# Altium schematic symbol library MCU_Texas_MSP430.SchLib: 361 symbols (part 4 of 7)
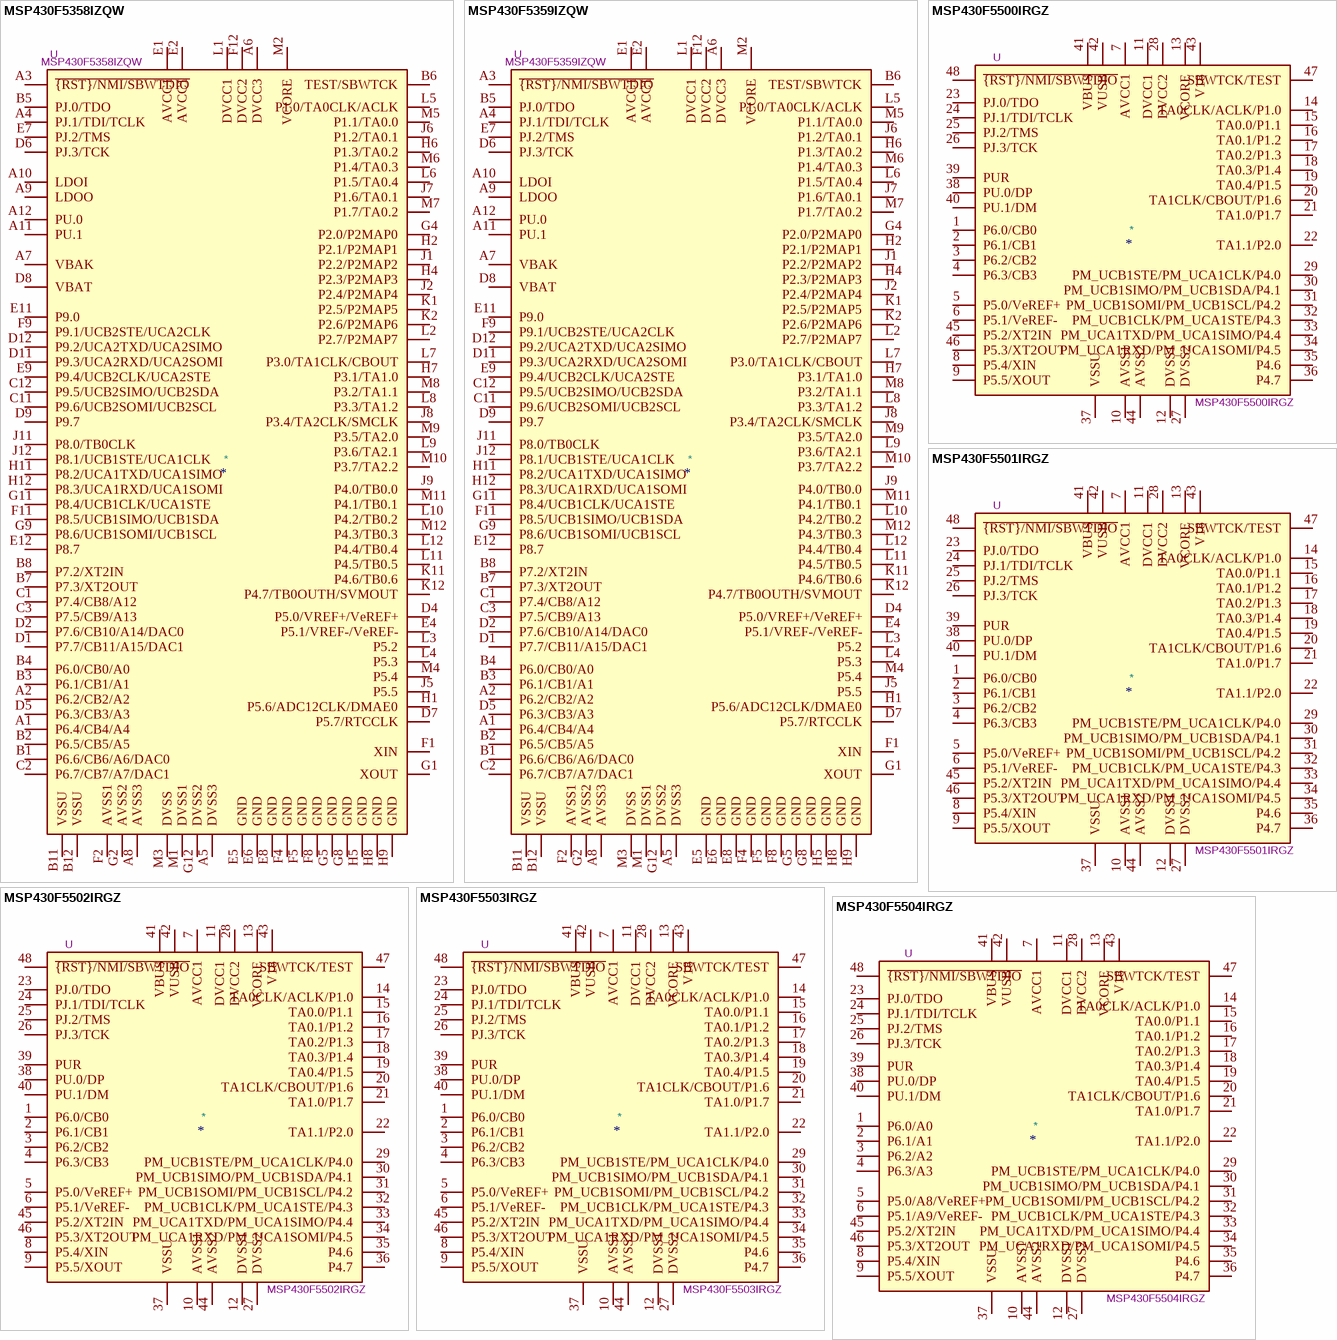
[diagram p37: symbols MSP430F5358IZQW to MSP430F5504IRGZ]

## MSP430F5359IZQW
designator *  value MSP430F5359IZQW  Reference: U
ki_keywords: TI MSP430 16-bit mixed signal microcontroller; ki_description: 512kB Flash, 66kB RAM, BGA-113; ki_fp_filters: Texas*MicroStar*Junior*BGA*7.0x7.0mm*Layout12x12*P0.5mm*; Footprint: Package_BGA:Texas_MicroStar_Junior_BGA-113_7.0x7.0mm_Layout12x12_P0.5mm; Datasheet: http://www.ti.com/lit/ds/symlink/msp430f5359.pdf
pins: A1 P6.4/CB4/A4, A2 P6.2/CB2/A2, A3 ~{{RST}/NMI/SBWTDIO}, A4 PJ.1/TDI/TCLK, A5 DVSS3, A6 DVCC3, A7 VBAK, A8 AVSS3, A9 LDOO, A10 LDOI, A11 PU.1, A12 PU.0, B1 P6.6/CB6/A6/DAC0, B2 P6.5/CB5/A5, B3 P6.1/CB1/A1, B4 P6.0/CB0/A0, B5 PJ.0/TDO, B6 TEST/SBWTCK, B7 P7.3/XT2OUT, B8 P7.2/XT2IN, B11 VSSU, B12 VSSU, C1 P7.4/CB8/A12, C2 P6.7/CB7/A7/DAC1, C3 P7.5/CB9/A13, C11 P9.6/UCB2SOMI/UCB2SCL, C12 P9.5/UCB2SIMO/UCB2SDA, D1 P7.7/CB11/A15/DAC1, D2 P7.6/CB10/A14/DAC0, D4 P5.0/VREF+/VeREF+, D5 P6.3/CB3/A3, D6 PJ.3/TCK, D7 P5.7/RTCCLK, D8 VBAT, D9 P9.7, D11 P9.3/UCA2RXD/UCA2SOMI, D12 P9.2/UCA2TXD/UCA2SIMO, E1 AVCC1, E2 AVCC1, E4 P5.1/VREF-/VeREF-, E5 GND, E6 GND, E7 PJ.2/TMS, E8 GND, E9 P9.4/UCB2CLK/UCA2STE, E11 P9.0, E12 P8.7, F1 XIN, F2 AVSS1, F4 GND, F5 GND, F8 GND, F9 P9.1/UCB2STE/UCA2CLK, F11 P8.5/UCB1SIMO/UCB1SDA, F12 DVCC2, G1 XOUT, G2 AVSS2, G4 P2.0/P2MAP0, G5 GND, G8 GND, G9 P8.6/UCB1SOMI/UCB1SCL, G11 P8.4/UCB1CLK/UCA1STE, G12 DVSS2, H1 P5.6/ADC12CLK/DMAE0, H2 P2.1/P2MAP1, H4 P2.3/P2MAP3, H5 GND, H6 P1.3/TA0.2, H7 P3.1/TA1.0, H8 GND, H9 GND, H11 P8.2/UCA1TXD/UCA1SIMO, H12 P8.3/UCA1RXD/UCA1SOMI, J1 P2.2/P2MAP2, J2 P2.4/P2MAP4, J5 P5.5, J6 P1.2/TA0.1, J7 P1.6/TA0.1, J8 P3.4/TA2CLK/SMCLK, J9 P4.0/TB0.0, J11 P8.0/TB0CLK, J12 P8.1/UCB1STE/UCA1CLK, K1 P2.5/P2MAP5, K2 P2.6/P2MAP6, K11 P4.6/TB0.6, K12 P4.7/TB0OUTH/SVMOUT, L1 DVCC1, L2 P2.7/P2MAP7, L3 P5.2, L4 P5.3, L5 P1.0/TA0CLK/ACLK, L6 P1.5/TA0.4, L7 P3.0/TA1CLK/CBOUT, L8 P3.3/TA1.2, L9 P3.6/TA2.1, L10 P4.2/TB0.2, L11 P4.5/TB0.5, L12 P4.4/TB0.4, M1 DVSS1, M2 VCORE, M3 DVSS, M4 P5.4, M5 P1.1/TA0.0, M6 P1.4/TA0.3, M7 P1.7/TA0.2, M8 P3.2/TA1.1, M9 P3.5/TA2.0, M10 P3.7/TA2.2, M11 P4.1/TB0.1, M12 P4.3/TB0.3

## MSP430F5500IRGZ
designator *  value MSP430F5500IRGZ  Reference: U
ki_keywords: TI MSP430 16-bit mixed signal microcontroller; ki_description: 8kB Flash, 4kB + 2kB RAM, QFN-48; ki_fp_filters: Texas*S?PVQFN*; Footprint: Package_DFN_QFN:Texas_S-PVQFN-N48_EP5.15x5.15mm; Datasheet: http://www.ti.com/lit/ds/symlink/msp430f5500.pdf
pins: 1 P6.0/CB0, 2 P6.1/CB1, 3 P6.2/CB2, 4 P6.3/CB3, 5 P5.0/VeREF+, 6 P5.1/VeREF-, 7 AVCC1, 8 P5.4/XIN, 9 P5.5/XOUT, 10 AVSS1, 11 DVCC1, 12 DVSS1, 13 VCORE, 14 TA0CLK/ACLK/P1.0, 15 TA0.0/P1.1, 16 TA0.1/P1.2, 17 TA0.2/P1.3, 18 TA0.3/P1.4, 19 TA0.4/P1.5, 20 TA1CLK/CBOUT/P1.6, 21 TA1.0/P1.7, 22 TA1.1/P2.0, 23 PJ.0/TDO, 24 PJ.1/TDI/TCLK, 25 PJ.2/TMS, 26 PJ.3/TCK, 27 DVSS2, 28 DVCC2, 29 PM_UCB1STE/PM_UCA1CLK/P4.0, 30 PM_UCB1SIMO/PM_UCB1SDA/P4.1, 31 PM_UCB1SOMI/PM_UCB1SCL/P4.2, 32 PM_UCB1CLK/PM_UCA1STE/P4.3, 33 PM_UCA1TXD/PM_UCA1SIMO/P4.4, 34 PM_UCA1RXD/PM_UCA1SOMI/P4.5, 35 P4.6, 36 P4.7, 37 VSSU, 38 PU.0/DP, 39 PUR, 40 PU.1/DM, 41 VBUS, 42 VUSB, 43 V18, 44 AVSS2, 45 P5.2/XT2IN, 46 P5.3/XT2OUT, 47 SBWTCK/TEST, 48 ~{{RST}/NMI/SBWTDIO}

## MSP430F5501IRGZ
designator *  value MSP430F5501IRGZ  Reference: U
ki_keywords: TI MSP430 16-bit mixed signal microcontroller; ki_description: 16kB Flash, 4kB + 2kB RAM, QFN-48; ki_fp_filters: Texas*S?PVQFN*; Footprint: Package_DFN_QFN:Texas_S-PVQFN-N48_EP5.15x5.15mm; Datasheet: http://www.ti.com/lit/ds/symlink/msp430f5501.pdf
pins: 1 P6.0/CB0, 2 P6.1/CB1, 3 P6.2/CB2, 4 P6.3/CB3, 5 P5.0/VeREF+, 6 P5.1/VeREF-, 7 AVCC1, 8 P5.4/XIN, 9 P5.5/XOUT, 10 AVSS1, 11 DVCC1, 12 DVSS1, 13 VCORE, 14 TA0CLK/ACLK/P1.0, 15 TA0.0/P1.1, 16 TA0.1/P1.2, 17 TA0.2/P1.3, 18 TA0.3/P1.4, 19 TA0.4/P1.5, 20 TA1CLK/CBOUT/P1.6, 21 TA1.0/P1.7, 22 TA1.1/P2.0, 23 PJ.0/TDO, 24 PJ.1/TDI/TCLK, 25 PJ.2/TMS, 26 PJ.3/TCK, 27 DVSS2, 28 DVCC2, 29 PM_UCB1STE/PM_UCA1CLK/P4.0, 30 PM_UCB1SIMO/PM_UCB1SDA/P4.1, 31 PM_UCB1SOMI/PM_UCB1SCL/P4.2, 32 PM_UCB1CLK/PM_UCA1STE/P4.3, 33 PM_UCA1TXD/PM_UCA1SIMO/P4.4, 34 PM_UCA1RXD/PM_UCA1SOMI/P4.5, 35 P4.6, 36 P4.7, 37 VSSU, 38 PU.0/DP, 39 PUR, 40 PU.1/DM, 41 VBUS, 42 VUSB, 43 V18, 44 AVSS2, 45 P5.2/XT2IN, 46 P5.3/XT2OUT, 47 SBWTCK/TEST, 48 ~{{RST}/NMI/SBWTDIO}

## MSP430F5502IRGZ
designator *  value MSP430F5502IRGZ  Reference: U
ki_keywords: TI MSP430 16-bit mixed signal microcontroller; ki_description: 24kB Flash, 4kB + 2kB RAM, QFN-48; ki_fp_filters: Texas*S?PVQFN*; Footprint: Package_DFN_QFN:Texas_S-PVQFN-N48_EP5.15x5.15mm; Datasheet: http://www.ti.com/lit/ds/symlink/msp430f5502.pdf
pins: 1 P6.0/CB0, 2 P6.1/CB1, 3 P6.2/CB2, 4 P6.3/CB3, 5 P5.0/VeREF+, 6 P5.1/VeREF-, 7 AVCC1, 8 P5.4/XIN, 9 P5.5/XOUT, 10 AVSS1, 11 DVCC1, 12 DVSS1, 13 VCORE, 14 TA0CLK/ACLK/P1.0, 15 TA0.0/P1.1, 16 TA0.1/P1.2, 17 TA0.2/P1.3, 18 TA0.3/P1.4, 19 TA0.4/P1.5, 20 TA1CLK/CBOUT/P1.6, 21 TA1.0/P1.7, 22 TA1.1/P2.0, 23 PJ.0/TDO, 24 PJ.1/TDI/TCLK, 25 PJ.2/TMS, 26 PJ.3/TCK, 27 DVSS2, 28 DVCC2, 29 PM_UCB1STE/PM_UCA1CLK/P4.0, 30 PM_UCB1SIMO/PM_UCB1SDA/P4.1, 31 PM_UCB1SOMI/PM_UCB1SCL/P4.2, 32 PM_UCB1CLK/PM_UCA1STE/P4.3, 33 PM_UCA1TXD/PM_UCA1SIMO/P4.4, 34 PM_UCA1RXD/PM_UCA1SOMI/P4.5, 35 P4.6, 36 P4.7, 37 VSSU, 38 PU.0/DP, 39 PUR, 40 PU.1/DM, 41 VBUS, 42 VUSB, 43 V18, 44 AVSS2, 45 P5.2/XT2IN, 46 P5.3/XT2OUT, 47 SBWTCK/TEST, 48 ~{{RST}/NMI/SBWTDIO}

## MSP430F5503IRGZ
designator *  value MSP430F5503IRGZ  Reference: U
ki_keywords: TI MSP430 16-bit mixed signal microcontroller; ki_description: 32kB Flash, 4kB + 2kB RAM, QFN-48; ki_fp_filters: Texas*S?PVQFN*; Footprint: Package_DFN_QFN:Texas_S-PVQFN-N48_EP5.15x5.15mm; Datasheet: http://www.ti.com/lit/ds/symlink/msp430f5503.pdf
pins: 1 P6.0/CB0, 2 P6.1/CB1, 3 P6.2/CB2, 4 P6.3/CB3, 5 P5.0/VeREF+, 6 P5.1/VeREF-, 7 AVCC1, 8 P5.4/XIN, 9 P5.5/XOUT, 10 AVSS1, 11 DVCC1, 12 DVSS1, 13 VCORE, 14 TA0CLK/ACLK/P1.0, 15 TA0.0/P1.1, 16 TA0.1/P1.2, 17 TA0.2/P1.3, 18 TA0.3/P1.4, 19 TA0.4/P1.5, 20 TA1CLK/CBOUT/P1.6, 21 TA1.0/P1.7, 22 TA1.1/P2.0, 23 PJ.0/TDO, 24 PJ.1/TDI/TCLK, 25 PJ.2/TMS, 26 PJ.3/TCK, 27 DVSS2, 28 DVCC2, 29 PM_UCB1STE/PM_UCA1CLK/P4.0, 30 PM_UCB1SIMO/PM_UCB1SDA/P4.1, 31 PM_UCB1SOMI/PM_UCB1SCL/P4.2, 32 PM_UCB1CLK/PM_UCA1STE/P4.3, 33 PM_UCA1TXD/PM_UCA1SIMO/P4.4, 34 PM_UCA1RXD/PM_UCA1SOMI/P4.5, 35 P4.6, 36 P4.7, 37 VSSU, 38 PU.0/DP, 39 PUR, 40 PU.1/DM, 41 VBUS, 42 VUSB, 43 V18, 44 AVSS2, 45 P5.2/XT2IN, 46 P5.3/XT2OUT, 47 SBWTCK/TEST, 48 ~{{RST}/NMI/SBWTDIO}

## MSP430F5504IRGZ
designator *  value MSP430F5504IRGZ  Reference: U
ki_keywords: TI MSP430 16-bit mixed signal microcontroller; ki_description: 8kB Flash, 4kB + 2kB RAM, QFN-48; ki_fp_filters: Texas*S?PVQFN*; Footprint: Package_DFN_QFN:Texas_S-PVQFN-N48_EP5.15x5.15mm; Datasheet: http://www.ti.com/lit/ds/symlink/msp430f5504.pdf
pins: 1 P6.0/A0, 2 P6.1/A1, 3 P6.2/A2, 4 P6.3/A3, 5 P5.0/A8/VeREF+, 6 P5.1/A9/VeREF-, 7 AVCC1, 8 P5.4/XIN, 9 P5.5/XOUT, 10 AVSS1, 11 DVCC1, 12 DVSS1, 13 VCORE, 14 TA0CLK/ACLK/P1.0, 15 TA0.0/P1.1, 16 TA0.1/P1.2, 17 TA0.2/P1.3, 18 TA0.3/P1.4, 19 TA0.4/P1.5, 20 TA1CLK/CBOUT/P1.6, 21 TA1.0/P1.7, 22 TA1.1/P2.0, 23 PJ.0/TDO, 24 PJ.1/TDI/TCLK, 25 PJ.2/TMS, 26 PJ.3/TCK, 27 DVSS2, 28 DVCC2, 29 PM_UCB1STE/PM_UCA1CLK/P4.0, 30 PM_UCB1SIMO/PM_UCB1SDA/P4.1, 31 PM_UCB1SOMI/PM_UCB1SCL/P4.2, 32 PM_UCB1CLK/PM_UCA1STE/P4.3, 33 PM_UCA1TXD/PM_UCA1SIMO/P4.4, 34 PM_UCA1RXD/PM_UCA1SOMI/P4.5, 35 P4.6, 36 P4.7, 37 VSSU, 38 PU.0/DP, 39 PUR, 40 PU.1/DM, 41 VBUS, 42 VUSB, 43 V18, 44 AVSS2, 45 P5.2/XT2IN, 46 P5.3/XT2OUT, 47 SBWTCK/TEST, 48 ~{{RST}/NMI/SBWTDIO}

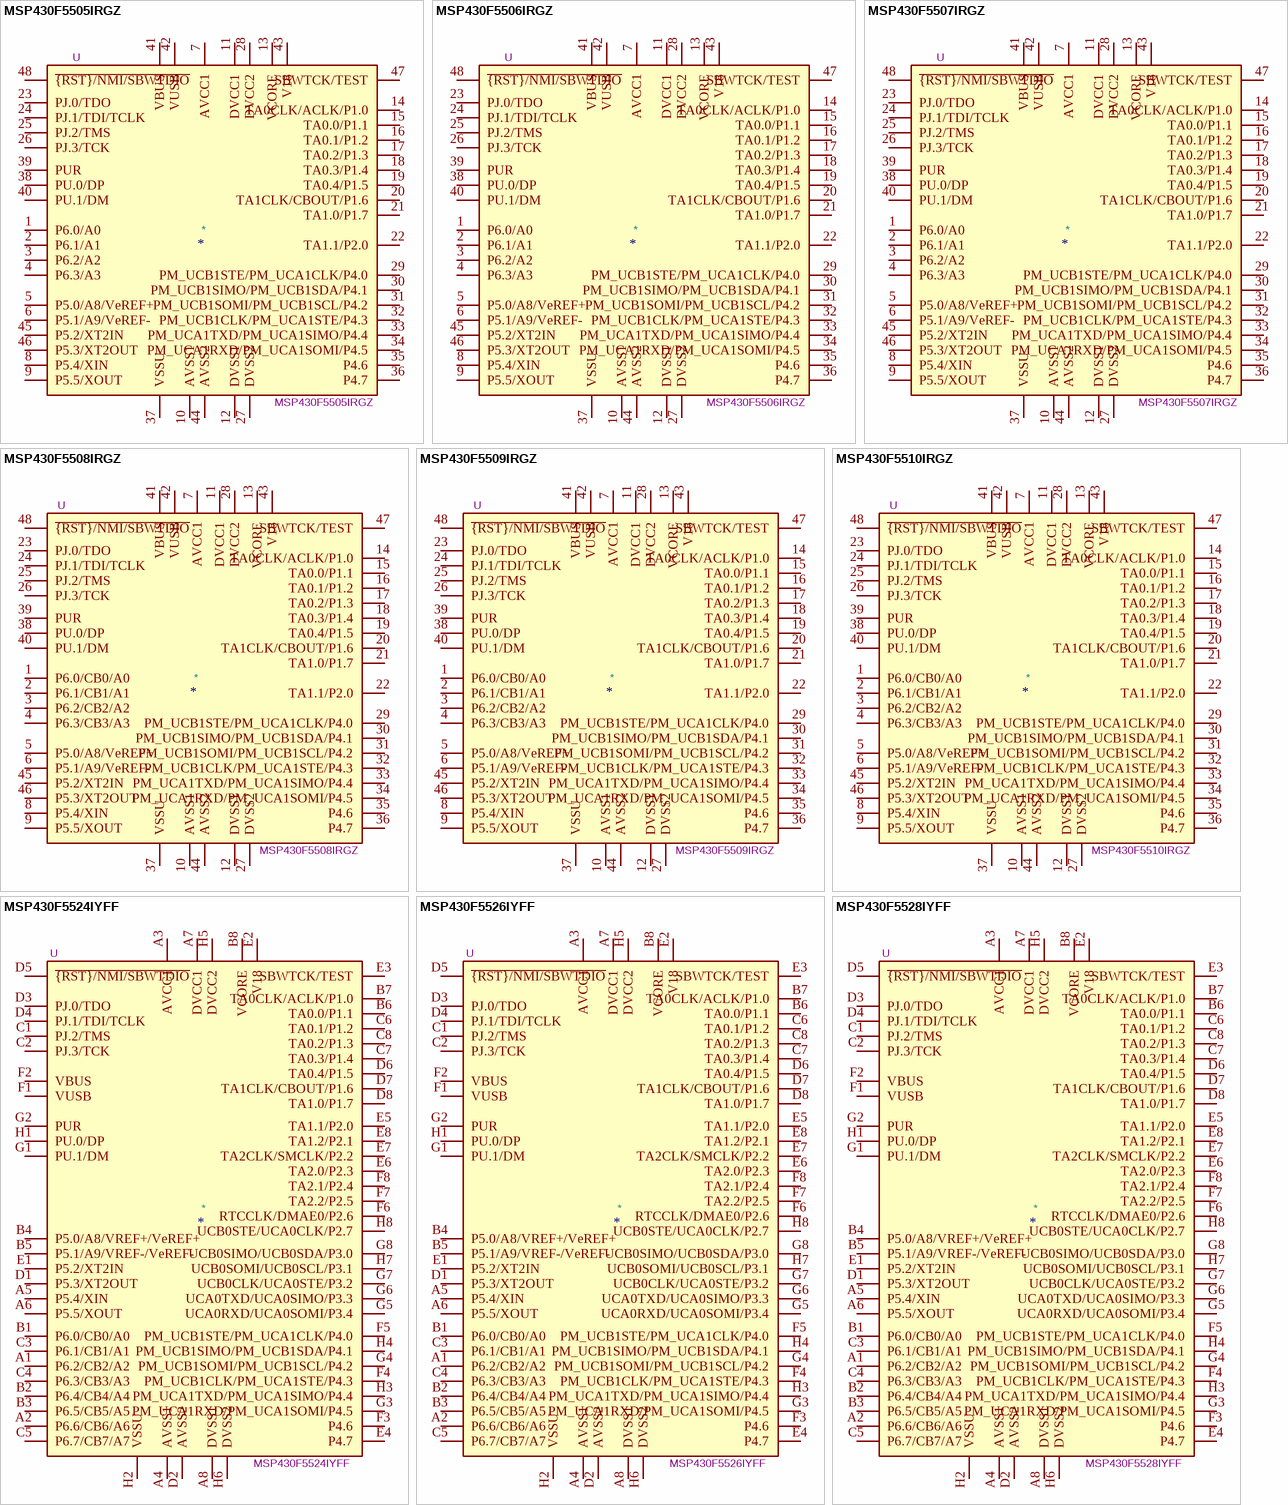
[diagram p16: symbols MSP430F5505IRGZ to MSP430F5528IYFF]

## MSP430F5505IRGZ
designator *  value MSP430F5505IRGZ  Reference: U
ki_keywords: TI MSP430 16-bit mixed signal microcontroller; ki_description: 16kB Flash, 4kB + 2kB RAM, QFN-48; ki_fp_filters: Texas*S?PVQFN*; Footprint: Package_DFN_QFN:Texas_S-PVQFN-N48_EP5.15x5.15mm; Datasheet: http://www.ti.com/lit/ds/symlink/msp430f5505.pdf
pins: 1 P6.0/A0, 2 P6.1/A1, 3 P6.2/A2, 4 P6.3/A3, 5 P5.0/A8/VeREF+, 6 P5.1/A9/VeREF-, 7 AVCC1, 8 P5.4/XIN, 9 P5.5/XOUT, 10 AVSS1, 11 DVCC1, 12 DVSS1, 13 VCORE, 14 TA0CLK/ACLK/P1.0, 15 TA0.0/P1.1, 16 TA0.1/P1.2, 17 TA0.2/P1.3, 18 TA0.3/P1.4, 19 TA0.4/P1.5, 20 TA1CLK/CBOUT/P1.6, 21 TA1.0/P1.7, 22 TA1.1/P2.0, 23 PJ.0/TDO, 24 PJ.1/TDI/TCLK, 25 PJ.2/TMS, 26 PJ.3/TCK, 27 DVSS2, 28 DVCC2, 29 PM_UCB1STE/PM_UCA1CLK/P4.0, 30 PM_UCB1SIMO/PM_UCB1SDA/P4.1, 31 PM_UCB1SOMI/PM_UCB1SCL/P4.2, 32 PM_UCB1CLK/PM_UCA1STE/P4.3, 33 PM_UCA1TXD/PM_UCA1SIMO/P4.4, 34 PM_UCA1RXD/PM_UCA1SOMI/P4.5, 35 P4.6, 36 P4.7, 37 VSSU, 38 PU.0/DP, 39 PUR, 40 PU.1/DM, 41 VBUS, 42 VUSB, 43 V18, 44 AVSS2, 45 P5.2/XT2IN, 46 P5.3/XT2OUT, 47 SBWTCK/TEST, 48 ~{{RST}/NMI/SBWTDIO}

## MSP430F5506IRGZ
designator *  value MSP430F5506IRGZ  Reference: U
ki_keywords: TI MSP430 16-bit mixed signal microcontroller; ki_description: 24kB Flash, 4kB + 2kB RAM, QFN-48; ki_fp_filters: Texas*S?PVQFN*; Footprint: Package_DFN_QFN:Texas_S-PVQFN-N48_EP5.15x5.15mm; Datasheet: http://www.ti.com/lit/ds/symlink/msp430f5506.pdf
pins: 1 P6.0/A0, 2 P6.1/A1, 3 P6.2/A2, 4 P6.3/A3, 5 P5.0/A8/VeREF+, 6 P5.1/A9/VeREF-, 7 AVCC1, 8 P5.4/XIN, 9 P5.5/XOUT, 10 AVSS1, 11 DVCC1, 12 DVSS1, 13 VCORE, 14 TA0CLK/ACLK/P1.0, 15 TA0.0/P1.1, 16 TA0.1/P1.2, 17 TA0.2/P1.3, 18 TA0.3/P1.4, 19 TA0.4/P1.5, 20 TA1CLK/CBOUT/P1.6, 21 TA1.0/P1.7, 22 TA1.1/P2.0, 23 PJ.0/TDO, 24 PJ.1/TDI/TCLK, 25 PJ.2/TMS, 26 PJ.3/TCK, 27 DVSS2, 28 DVCC2, 29 PM_UCB1STE/PM_UCA1CLK/P4.0, 30 PM_UCB1SIMO/PM_UCB1SDA/P4.1, 31 PM_UCB1SOMI/PM_UCB1SCL/P4.2, 32 PM_UCB1CLK/PM_UCA1STE/P4.3, 33 PM_UCA1TXD/PM_UCA1SIMO/P4.4, 34 PM_UCA1RXD/PM_UCA1SOMI/P4.5, 35 P4.6, 36 P4.7, 37 VSSU, 38 PU.0/DP, 39 PUR, 40 PU.1/DM, 41 VBUS, 42 VUSB, 43 V18, 44 AVSS2, 45 P5.2/XT2IN, 46 P5.3/XT2OUT, 47 SBWTCK/TEST, 48 ~{{RST}/NMI/SBWTDIO}

## MSP430F5507IRGZ
designator *  value MSP430F5507IRGZ  Reference: U
ki_keywords: TI MSP430 16-bit mixed signal microcontroller; ki_description: 32kB Flash, 4kB + 2kB RAM, QFN-48; ki_fp_filters: Texas*S?PVQFN*; Footprint: Package_DFN_QFN:Texas_S-PVQFN-N48_EP5.15x5.15mm; Datasheet: http://www.ti.com/lit/ds/symlink/msp430f5507.pdf
pins: 1 P6.0/A0, 2 P6.1/A1, 3 P6.2/A2, 4 P6.3/A3, 5 P5.0/A8/VeREF+, 6 P5.1/A9/VeREF-, 7 AVCC1, 8 P5.4/XIN, 9 P5.5/XOUT, 10 AVSS1, 11 DVCC1, 12 DVSS1, 13 VCORE, 14 TA0CLK/ACLK/P1.0, 15 TA0.0/P1.1, 16 TA0.1/P1.2, 17 TA0.2/P1.3, 18 TA0.3/P1.4, 19 TA0.4/P1.5, 20 TA1CLK/CBOUT/P1.6, 21 TA1.0/P1.7, 22 TA1.1/P2.0, 23 PJ.0/TDO, 24 PJ.1/TDI/TCLK, 25 PJ.2/TMS, 26 PJ.3/TCK, 27 DVSS2, 28 DVCC2, 29 PM_UCB1STE/PM_UCA1CLK/P4.0, 30 PM_UCB1SIMO/PM_UCB1SDA/P4.1, 31 PM_UCB1SOMI/PM_UCB1SCL/P4.2, 32 PM_UCB1CLK/PM_UCA1STE/P4.3, 33 PM_UCA1TXD/PM_UCA1SIMO/P4.4, 34 PM_UCA1RXD/PM_UCA1SOMI/P4.5, 35 P4.6, 36 P4.7, 37 VSSU, 38 PU.0/DP, 39 PUR, 40 PU.1/DM, 41 VBUS, 42 VUSB, 43 V18, 44 AVSS2, 45 P5.2/XT2IN, 46 P5.3/XT2OUT, 47 SBWTCK/TEST, 48 ~{{RST}/NMI/SBWTDIO}

## MSP430F5508IRGZ
designator *  value MSP430F5508IRGZ  Reference: U
ki_keywords: TI MSP430 16-bit mixed signal microcontroller; ki_description: 16kB Flash, 4kB + 2kB RAM, QFN-48; ki_fp_filters: Texas*S?PVQFN*; Footprint: Package_DFN_QFN:Texas_S-PVQFN-N48_EP5.15x5.15mm; Datasheet: http://www.ti.com/lit/ds/symlink/msp430f5508.pdf
pins: 1 P6.0/CB0/A0, 2 P6.1/CB1/A1, 3 P6.2/CB2/A2, 4 P6.3/CB3/A3, 5 P5.0/A8/VeREF+, 6 P5.1/A9/VeREF-, 7 AVCC1, 8 P5.4/XIN, 9 P5.5/XOUT, 10 AVSS1, 11 DVCC1, 12 DVSS1, 13 VCORE, 14 TA0CLK/ACLK/P1.0, 15 TA0.0/P1.1, 16 TA0.1/P1.2, 17 TA0.2/P1.3, 18 TA0.3/P1.4, 19 TA0.4/P1.5, 20 TA1CLK/CBOUT/P1.6, 21 TA1.0/P1.7, 22 TA1.1/P2.0, 23 PJ.0/TDO, 24 PJ.1/TDI/TCLK, 25 PJ.2/TMS, 26 PJ.3/TCK, 27 DVSS2, 28 DVCC2, 29 PM_UCB1STE/PM_UCA1CLK/P4.0, 30 PM_UCB1SIMO/PM_UCB1SDA/P4.1, 31 PM_UCB1SOMI/PM_UCB1SCL/P4.2, 32 PM_UCB1CLK/PM_UCA1STE/P4.3, 33 PM_UCA1TXD/PM_UCA1SIMO/P4.4, 34 PM_UCA1RXD/PM_UCA1SOMI/P4.5, 35 P4.6, 36 P4.7, 37 VSSU, 38 PU.0/DP, 39 PUR, 40 PU.1/DM, 41 VBUS, 42 VUSB, 43 V18, 44 AVSS2, 45 P5.2/XT2IN, 46 P5.3/XT2OUT, 47 SBWTCK/TEST, 48 ~{{RST}/NMI/SBWTDIO}

## MSP430F5509IRGZ
designator *  value MSP430F5509IRGZ  Reference: U
ki_keywords: TI MSP430 16-bit mixed signal microcontroller; ki_description: 24kB Flash, 4kB + 2kB RAM, QFN-48; ki_fp_filters: Texas*S?PVQFN*; Footprint: Package_DFN_QFN:Texas_S-PVQFN-N48_EP5.15x5.15mm; Datasheet: http://www.ti.com/lit/ds/symlink/msp430f5509.pdf
pins: 1 P6.0/CB0/A0, 2 P6.1/CB1/A1, 3 P6.2/CB2/A2, 4 P6.3/CB3/A3, 5 P5.0/A8/VeREF+, 6 P5.1/A9/VeREF-, 7 AVCC1, 8 P5.4/XIN, 9 P5.5/XOUT, 10 AVSS1, 11 DVCC1, 12 DVSS1, 13 VCORE, 14 TA0CLK/ACLK/P1.0, 15 TA0.0/P1.1, 16 TA0.1/P1.2, 17 TA0.2/P1.3, 18 TA0.3/P1.4, 19 TA0.4/P1.5, 20 TA1CLK/CBOUT/P1.6, 21 TA1.0/P1.7, 22 TA1.1/P2.0, 23 PJ.0/TDO, 24 PJ.1/TDI/TCLK, 25 PJ.2/TMS, 26 PJ.3/TCK, 27 DVSS2, 28 DVCC2, 29 PM_UCB1STE/PM_UCA1CLK/P4.0, 30 PM_UCB1SIMO/PM_UCB1SDA/P4.1, 31 PM_UCB1SOMI/PM_UCB1SCL/P4.2, 32 PM_UCB1CLK/PM_UCA1STE/P4.3, 33 PM_UCA1TXD/PM_UCA1SIMO/P4.4, 34 PM_UCA1RXD/PM_UCA1SOMI/P4.5, 35 P4.6, 36 P4.7, 37 VSSU, 38 PU.0/DP, 39 PUR, 40 PU.1/DM, 41 VBUS, 42 VUSB, 43 V18, 44 AVSS2, 45 P5.2/XT2IN, 46 P5.3/XT2OUT, 47 SBWTCK/TEST, 48 ~{{RST}/NMI/SBWTDIO}

## MSP430F5510IRGZ
designator *  value MSP430F5510IRGZ  Reference: U
ki_keywords: TI MSP430 16-bit mixed signal microcontroller; ki_description: 32kB Flash, 4kB + 2kB RAM, QFN-48; ki_fp_filters: Texas*S?PVQFN*; Footprint: Package_DFN_QFN:Texas_S-PVQFN-N48_EP5.15x5.15mm; Datasheet: http://www.ti.com/lit/ds/symlink/msp430f5510.pdf
pins: 1 P6.0/CB0/A0, 2 P6.1/CB1/A1, 3 P6.2/CB2/A2, 4 P6.3/CB3/A3, 5 P5.0/A8/VeREF+, 6 P5.1/A9/VeREF-, 7 AVCC1, 8 P5.4/XIN, 9 P5.5/XOUT, 10 AVSS1, 11 DVCC1, 12 DVSS1, 13 VCORE, 14 TA0CLK/ACLK/P1.0, 15 TA0.0/P1.1, 16 TA0.1/P1.2, 17 TA0.2/P1.3, 18 TA0.3/P1.4, 19 TA0.4/P1.5, 20 TA1CLK/CBOUT/P1.6, 21 TA1.0/P1.7, 22 TA1.1/P2.0, 23 PJ.0/TDO, 24 PJ.1/TDI/TCLK, 25 PJ.2/TMS, 26 PJ.3/TCK, 27 DVSS2, 28 DVCC2, 29 PM_UCB1STE/PM_UCA1CLK/P4.0, 30 PM_UCB1SIMO/PM_UCB1SDA/P4.1, 31 PM_UCB1SOMI/PM_UCB1SCL/P4.2, 32 PM_UCB1CLK/PM_UCA1STE/P4.3, 33 PM_UCA1TXD/PM_UCA1SIMO/P4.4, 34 PM_UCA1RXD/PM_UCA1SOMI/P4.5, 35 P4.6, 36 P4.7, 37 VSSU, 38 PU.0/DP, 39 PUR, 40 PU.1/DM, 41 VBUS, 42 VUSB, 43 V18, 44 AVSS2, 45 P5.2/XT2IN, 46 P5.3/XT2OUT, 47 SBWTCK/TEST, 48 ~{{RST}/NMI/SBWTDIO}

## MSP430F5524IYFF
designator *  value MSP430F5524IYFF  Reference: U
ki_keywords: TI MSP430 16-bit mixed signal microcontroller; ki_description: 64kB Flash, 4kB + 2kB RAM, BGA-64; ki_fp_filters: Texas*DSBGA*3.415x3.535mm*Layout8x8*P0.4mm*; Footprint: Package_BGA:Texas_DSBGA-64_3.415x3.535mm_Layout8x8_P0.4mm; Datasheet: http://www.ti.com/lit/ds/symlink/msp430f5524.pdf
pins: A1 P6.2/CB2/A2, A2 P6.6/CB6/A6, A3 AVCC1, A4 AVSS1, A5 P5.4/XIN, A6 P5.5/XOUT, A7 DVCC1, A8 DVSS1, B1 P6.0/CB0/A0, B2 P6.4/CB4/A4, B3 P6.5/CB5/A5, B4 P5.0/A8/VREF+/VeREF+, B5 P5.1/A9/VREF-/VeREF-, B6 TA0.0/P1.1, B7 TA0CLK/ACLK/P1.0, B8 VCORE, C1 PJ.2/TMS, C2 PJ.3/TCK, C3 P6.1/CB1/A1, C4 P6.3/CB3/A3, C5 P6.7/CB7/A7, C6 TA0.1/P1.2, C7 TA0.3/P1.4, C8 TA0.2/P1.3, D1 P5.3/XT2OUT, D2 AVSS2, D3 PJ.0/TDO, D4 PJ.1/TDI/TCLK, D5 ~{{RST}/NMI/SBWTDIO}, D6 TA0.4/P1.5, D7 TA1CLK/CBOUT/P1.6, D8 TA1.0/P1.7, E1 P5.2/XT2IN, E2 V18, E3 SBWTCK/TEST, E4 P4.7, E5 TA1.1/P2.0, E6 TA2.0/P2.3, E7 TA2CLK/SMCLK/P2.2, E8 TA1.2/P2.1, F1 VUSB, F2 VBUS, F3 P4.6, F4 PM_UCB1CLK/PM_UCA1STE/P4.3, F5 PM_UCB1STE/PM_UCA1CLK/P4.0, F6 RTCCLK/DMAE0/P2.6, F7 TA2.2/P2.5, F8 TA2.1/P2.4, G1 PU.1/DM, G2 PUR, G3 PM_UCA1RXD/PM_UCA1SOMI/P4.5, G4 PM_UCB1SOMI/PM_UCB1SCL/P4.2, G5 UCA0RXD/UCA0SOMI/P3.4, G6 UCA0TXD/UCA0SIMO/P3.3, G7 UCB0CLK/UCA0STE/P3.2, G8 UCB0SIMO/UCB0SDA/P3.0, H1 PU.0/DP, H2 VSSU, H3 PM_UCA1TXD/PM_UCA1SIMO/P4.4, H4 PM_UCB1SIMO/PM_UCB1SDA/P4.1, H5 DVCC2, H6 DVSS2, H7 UCB0SOMI/UCB0SCL/P3.1, H8 UCB0STE/UCA0CLK/P2.7

## MSP430F5526IYFF
designator *  value MSP430F5526IYFF  Reference: U
ki_keywords: TI MSP430 16-bit mixed signal microcontroller; ki_description: 96kB Flash, 6kB + 2kB RAM, BGA-64; ki_fp_filters: Texas*DSBGA*3.415x3.535mm*Layout8x8*P0.4mm*; Footprint: Package_BGA:Texas_DSBGA-64_3.415x3.535mm_Layout8x8_P0.4mm; Datasheet: http://www.ti.com/lit/ds/symlink/msp430f5526.pdf
pins: A1 P6.2/CB2/A2, A2 P6.6/CB6/A6, A3 AVCC1, A4 AVSS1, A5 P5.4/XIN, A6 P5.5/XOUT, A7 DVCC1, A8 DVSS1, B1 P6.0/CB0/A0, B2 P6.4/CB4/A4, B3 P6.5/CB5/A5, B4 P5.0/A8/VREF+/VeREF+, B5 P5.1/A9/VREF-/VeREF-, B6 TA0.0/P1.1, B7 TA0CLK/ACLK/P1.0, B8 VCORE, C1 PJ.2/TMS, C2 PJ.3/TCK, C3 P6.1/CB1/A1, C4 P6.3/CB3/A3, C5 P6.7/CB7/A7, C6 TA0.1/P1.2, C7 TA0.3/P1.4, C8 TA0.2/P1.3, D1 P5.3/XT2OUT, D2 AVSS2, D3 PJ.0/TDO, D4 PJ.1/TDI/TCLK, D5 ~{{RST}/NMI/SBWTDIO}, D6 TA0.4/P1.5, D7 TA1CLK/CBOUT/P1.6, D8 TA1.0/P1.7, E1 P5.2/XT2IN, E2 V18, E3 SBWTCK/TEST, E4 P4.7, E5 TA1.1/P2.0, E6 TA2.0/P2.3, E7 TA2CLK/SMCLK/P2.2, E8 TA1.2/P2.1, F1 VUSB, F2 VBUS, F3 P4.6, F4 PM_UCB1CLK/PM_UCA1STE/P4.3, F5 PM_UCB1STE/PM_UCA1CLK/P4.0, F6 RTCCLK/DMAE0/P2.6, F7 TA2.2/P2.5, F8 TA2.1/P2.4, G1 PU.1/DM, G2 PUR, G3 PM_UCA1RXD/PM_UCA1SOMI/P4.5, G4 PM_UCB1SOMI/PM_UCB1SCL/P4.2, G5 UCA0RXD/UCA0SOMI/P3.4, G6 UCA0TXD/UCA0SIMO/P3.3, G7 UCB0CLK/UCA0STE/P3.2, G8 UCB0SIMO/UCB0SDA/P3.0, H1 PU.0/DP, H2 VSSU, H3 PM_UCA1TXD/PM_UCA1SIMO/P4.4, H4 PM_UCB1SIMO/PM_UCB1SDA/P4.1, H5 DVCC2, H6 DVSS2, H7 UCB0SOMI/UCB0SCL/P3.1, H8 UCB0STE/UCA0CLK/P2.7

## MSP430F5528IYFF
designator *  value MSP430F5528IYFF  Reference: U
ki_keywords: TI MSP430 16-bit mixed signal microcontroller; ki_description: 128kB Flash, 8kB + 2kB RAM, BGA-64; ki_fp_filters: Texas*DSBGA*3.415x3.535mm*Layout8x8*P0.4mm*; Footprint: Package_BGA:Texas_DSBGA-64_3.415x3.535mm_Layout8x8_P0.4mm; Datasheet: http://www.ti.com/lit/ds/symlink/msp430f5528.pdf
pins: A1 P6.2/CB2/A2, A2 P6.6/CB6/A6, A3 AVCC1, A4 AVSS1, A5 P5.4/XIN, A6 P5.5/XOUT, A7 DVCC1, A8 DVSS1, B1 P6.0/CB0/A0, B2 P6.4/CB4/A4, B3 P6.5/CB5/A5, B4 P5.0/A8/VREF+/VeREF+, B5 P5.1/A9/VREF-/VeREF-, B6 TA0.0/P1.1, B7 TA0CLK/ACLK/P1.0, B8 VCORE, C1 PJ.2/TMS, C2 PJ.3/TCK, C3 P6.1/CB1/A1, C4 P6.3/CB3/A3, C5 P6.7/CB7/A7, C6 TA0.1/P1.2, C7 TA0.3/P1.4, C8 TA0.2/P1.3, D1 P5.3/XT2OUT, D2 AVSS2, D3 PJ.0/TDO, D4 PJ.1/TDI/TCLK, D5 ~{{RST}/NMI/SBWTDIO}, D6 TA0.4/P1.5, D7 TA1CLK/CBOUT/P1.6, D8 TA1.0/P1.7, E1 P5.2/XT2IN, E2 V18, E3 SBWTCK/TEST, E4 P4.7, E5 TA1.1/P2.0, E6 TA2.0/P2.3, E7 TA2CLK/SMCLK/P2.2, E8 TA1.2/P2.1, F1 VUSB, F2 VBUS, F3 P4.6, F4 PM_UCB1CLK/PM_UCA1STE/P4.3, F5 PM_UCB1STE/PM_UCA1CLK/P4.0, F6 RTCCLK/DMAE0/P2.6, F7 TA2.2/P2.5, F8 TA2.1/P2.4, G1 PU.1/DM, G2 PUR, G3 PM_UCA1RXD/PM_UCA1SOMI/P4.5, G4 PM_UCB1SOMI/PM_UCB1SCL/P4.2, G5 UCA0RXD/UCA0SOMI/P3.4, G6 UCA0TXD/UCA0SIMO/P3.3, G7 UCB0CLK/UCA0STE/P3.2, G8 UCB0SIMO/UCB0SDA/P3.0, H1 PU.0/DP, H2 VSSU, H3 PM_UCA1TXD/PM_UCA1SIMO/P4.4, H4 PM_UCB1SIMO/PM_UCB1SDA/P4.1, H5 DVCC2, H6 DVSS2, H7 UCB0SOMI/UCB0SCL/P3.1, H8 UCB0STE/UCA0CLK/P2.7

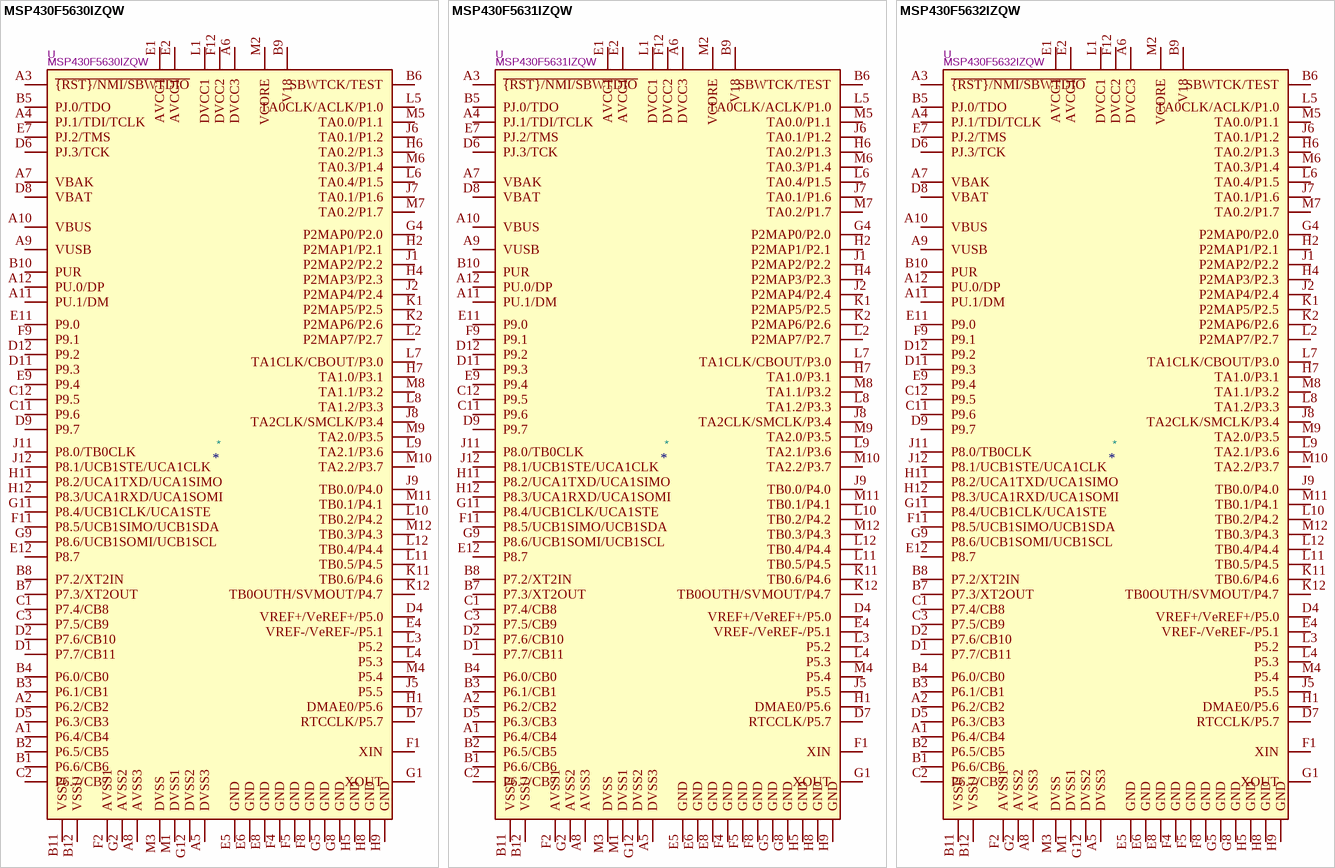
[diagram p17: symbols MSP430F5630IZQW to MSP430F5632IZQW]

## MSP430F5630IZQW
designator *  value MSP430F5630IZQW  Reference: U
ki_keywords: TI MSP430 16-bit mixed signal microcontroller; ki_description: 128kB Flash, 16kB + 2kB RAM, BGA-113; ki_fp_filters: Texas*MicroStar*Junior*BGA*7.0x7.0mm*Layout12x12*P0.5mm*; Footprint: Package_BGA:Texas_MicroStar_Junior_BGA-113_7.0x7.0mm_Layout12x12_P0.5mm; Datasheet: http://www.ti.com/lit/ds/symlink/msp430f5630.pdf
pins: A1 P6.4/CB4, A2 P6.2/CB2, A3 ~{{RST}/NMI/SBWTDIO}, A4 PJ.1/TDI/TCLK, A5 DVSS3, A6 DVCC3, A7 VBAK, A8 AVSS3, A9 VUSB, A10 VBUS, A11 PU.1/DM, A12 PU.0/DP, B1 P6.6/CB6, B2 P6.5/CB5, B3 P6.1/CB1, B4 P6.0/CB0, B5 PJ.0/TDO, B6 SBWTCK/TEST, B7 P7.3/XT2OUT, B8 P7.2/XT2IN, B9 V18, B10 PUR, B11 VSSU, B12 VSSU, C1 P7.4/CB8, C2 P6.7/CB7, C3 P7.5/CB9, C11 P9.6, C12 P9.5, D1 P7.7/CB11, D2 P7.6/CB10, D4 VREF+/VeREF+/P5.0, D5 P6.3/CB3, D6 PJ.3/TCK, D7 RTCCLK/P5.7, D8 VBAT, D9 P9.7, D11 P9.3, D12 P9.2, E1 AVCC1, E2 AVCC1, E4 VREF-/VeREF-/P5.1, E5 GND, E6 GND, E7 PJ.2/TMS, E8 GND, E9 P9.4, E11 P9.0, E12 P8.7, F1 XIN, F2 AVSS1, F4 GND, F5 GND, F8 GND, F9 P9.1, F11 P8.5/UCB1SIMO/UCB1SDA, F12 DVCC2, G1 XOUT, G2 AVSS2, G4 P2MAP0/P2.0, G5 GND, G8 GND, G9 P8.6/UCB1SOMI/UCB1SCL, G11 P8.4/UCB1CLK/UCA1STE, G12 DVSS2, H1 DMAE0/P5.6, H2 P2MAP1/P2.1, H4 P2MAP3/P2.3, H5 GND, H6 TA0.2/P1.3, H7 TA1.0/P3.1, H8 GND, H9 GND, H11 P8.2/UCA1TXD/UCA1SIMO, H12 P8.3/UCA1RXD/UCA1SOMI, J1 P2MAP2/P2.2, J2 P2MAP4/P2.4, J5 P5.5, J6 TA0.1/P1.2, J7 TA0.1/P1.6, J8 TA2CLK/SMCLK/P3.4, J9 TB0.0/P4.0, J11 P8.0/TB0CLK, J12 P8.1/UCB1STE/UCA1CLK, K1 P2MAP5/P2.5, K2 P2MAP6/P2.6, K11 TB0.6/P4.6, K12 TB0OUTH/SVMOUT/P4.7, L1 DVCC1, L2 P2MAP7/P2.7, L3 P5.2, L4 P5.3, L5 TA0CLK/ACLK/P1.0, L6 TA0.4/P1.5, L7 TA1CLK/CBOUT/P3.0, L8 TA1.2/P3.3, L9 TA2.1/P3.6, L10 TB0.2/P4.2, L11 TB0.5/P4.5, L12 TB0.4/P4.4, M1 DVSS1, M2 VCORE, M3 DVSS, M4 P5.4, M5 TA0.0/P1.1, M6 TA0.3/P1.4, M7 TA0.2/P1.7, M8 TA1.1/P3.2, M9 TA2.0/P3.5, M10 TA2.2/P3.7, M11 TB0.1/P4.1, M12 TB0.3/P4.3

## MSP430F5631IZQW
designator *  value MSP430F5631IZQW  Reference: U
ki_keywords: TI MSP430 16-bit mixed signal microcontroller; ki_description: 192kB Flash, 16kB + 2kB RAM, BGA-113; ki_fp_filters: Texas*MicroStar*Junior*BGA*7.0x7.0mm*Layout12x12*P0.5mm*; Footprint: Package_BGA:Texas_MicroStar_Junior_BGA-113_7.0x7.0mm_Layout12x12_P0.5mm; Datasheet: http://www.ti.com/lit/ds/symlink/msp430f5631.pdf
pins: A1 P6.4/CB4, A2 P6.2/CB2, A3 ~{{RST}/NMI/SBWTDIO}, A4 PJ.1/TDI/TCLK, A5 DVSS3, A6 DVCC3, A7 VBAK, A8 AVSS3, A9 VUSB, A10 VBUS, A11 PU.1/DM, A12 PU.0/DP, B1 P6.6/CB6, B2 P6.5/CB5, B3 P6.1/CB1, B4 P6.0/CB0, B5 PJ.0/TDO, B6 SBWTCK/TEST, B7 P7.3/XT2OUT, B8 P7.2/XT2IN, B9 V18, B10 PUR, B11 VSSU, B12 VSSU, C1 P7.4/CB8, C2 P6.7/CB7, C3 P7.5/CB9, C11 P9.6, C12 P9.5, D1 P7.7/CB11, D2 P7.6/CB10, D4 VREF+/VeREF+/P5.0, D5 P6.3/CB3, D6 PJ.3/TCK, D7 RTCCLK/P5.7, D8 VBAT, D9 P9.7, D11 P9.3, D12 P9.2, E1 AVCC1, E2 AVCC1, E4 VREF-/VeREF-/P5.1, E5 GND, E6 GND, E7 PJ.2/TMS, E8 GND, E9 P9.4, E11 P9.0, E12 P8.7, F1 XIN, F2 AVSS1, F4 GND, F5 GND, F8 GND, F9 P9.1, F11 P8.5/UCB1SIMO/UCB1SDA, F12 DVCC2, G1 XOUT, G2 AVSS2, G4 P2MAP0/P2.0, G5 GND, G8 GND, G9 P8.6/UCB1SOMI/UCB1SCL, G11 P8.4/UCB1CLK/UCA1STE, G12 DVSS2, H1 DMAE0/P5.6, H2 P2MAP1/P2.1, H4 P2MAP3/P2.3, H5 GND, H6 TA0.2/P1.3, H7 TA1.0/P3.1, H8 GND, H9 GND, H11 P8.2/UCA1TXD/UCA1SIMO, H12 P8.3/UCA1RXD/UCA1SOMI, J1 P2MAP2/P2.2, J2 P2MAP4/P2.4, J5 P5.5, J6 TA0.1/P1.2, J7 TA0.1/P1.6, J8 TA2CLK/SMCLK/P3.4, J9 TB0.0/P4.0, J11 P8.0/TB0CLK, J12 P8.1/UCB1STE/UCA1CLK, K1 P2MAP5/P2.5, K2 P2MAP6/P2.6, K11 TB0.6/P4.6, K12 TB0OUTH/SVMOUT/P4.7, L1 DVCC1, L2 P2MAP7/P2.7, L3 P5.2, L4 P5.3, L5 TA0CLK/ACLK/P1.0, L6 TA0.4/P1.5, L7 TA1CLK/CBOUT/P3.0, L8 TA1.2/P3.3, L9 TA2.1/P3.6, L10 TB0.2/P4.2, L11 TB0.5/P4.5, L12 TB0.4/P4.4, M1 DVSS1, M2 VCORE, M3 DVSS, M4 P5.4, M5 TA0.0/P1.1, M6 TA0.3/P1.4, M7 TA0.2/P1.7, M8 TA1.1/P3.2, M9 TA2.0/P3.5, M10 TA2.2/P3.7, M11 TB0.1/P4.1, M12 TB0.3/P4.3

## MSP430F5632IZQW
designator *  value MSP430F5632IZQW  Reference: U
ki_keywords: TI MSP430 16-bit mixed signal microcontroller; ki_description: 256kB Flash, 16kB + 2kB RAM, BGA-113; ki_fp_filters: Texas*MicroStar*Junior*BGA*7.0x7.0mm*Layout12x12*P0.5mm*; Footprint: Package_BGA:Texas_MicroStar_Junior_BGA-113_7.0x7.0mm_Layout12x12_P0.5mm; Datasheet: http://www.ti.com/lit/ds/symlink/msp430f5632.pdf
pins: A1 P6.4/CB4, A2 P6.2/CB2, A3 ~{{RST}/NMI/SBWTDIO}, A4 PJ.1/TDI/TCLK, A5 DVSS3, A6 DVCC3, A7 VBAK, A8 AVSS3, A9 VUSB, A10 VBUS, A11 PU.1/DM, A12 PU.0/DP, B1 P6.6/CB6, B2 P6.5/CB5, B3 P6.1/CB1, B4 P6.0/CB0, B5 PJ.0/TDO, B6 SBWTCK/TEST, B7 P7.3/XT2OUT, B8 P7.2/XT2IN, B9 V18, B10 PUR, B11 VSSU, B12 VSSU, C1 P7.4/CB8, C2 P6.7/CB7, C3 P7.5/CB9, C11 P9.6, C12 P9.5, D1 P7.7/CB11, D2 P7.6/CB10, D4 VREF+/VeREF+/P5.0, D5 P6.3/CB3, D6 PJ.3/TCK, D7 RTCCLK/P5.7, D8 VBAT, D9 P9.7, D11 P9.3, D12 P9.2, E1 AVCC1, E2 AVCC1, E4 VREF-/VeREF-/P5.1, E5 GND, E6 GND, E7 PJ.2/TMS, E8 GND, E9 P9.4, E11 P9.0, E12 P8.7, F1 XIN, F2 AVSS1, F4 GND, F5 GND, F8 GND, F9 P9.1, F11 P8.5/UCB1SIMO/UCB1SDA, F12 DVCC2, G1 XOUT, G2 AVSS2, G4 P2MAP0/P2.0, G5 GND, G8 GND, G9 P8.6/UCB1SOMI/UCB1SCL, G11 P8.4/UCB1CLK/UCA1STE, G12 DVSS2, H1 DMAE0/P5.6, H2 P2MAP1/P2.1, H4 P2MAP3/P2.3, H5 GND, H6 TA0.2/P1.3, H7 TA1.0/P3.1, H8 GND, H9 GND, H11 P8.2/UCA1TXD/UCA1SIMO, H12 P8.3/UCA1RXD/UCA1SOMI, J1 P2MAP2/P2.2, J2 P2MAP4/P2.4, J5 P5.5, J6 TA0.1/P1.2, J7 TA0.1/P1.6, J8 TA2CLK/SMCLK/P3.4, J9 TB0.0/P4.0, J11 P8.0/TB0CLK, J12 P8.1/UCB1STE/UCA1CLK, K1 P2MAP5/P2.5, K2 P2MAP6/P2.6, K11 TB0.6/P4.6, K12 TB0OUTH/SVMOUT/P4.7, L1 DVCC1, L2 P2MAP7/P2.7, L3 P5.2, L4 P5.3, L5 TA0CLK/ACLK/P1.0, L6 TA0.4/P1.5, L7 TA1CLK/CBOUT/P3.0, L8 TA1.2/P3.3, L9 TA2.1/P3.6, L10 TB0.2/P4.2, L11 TB0.5/P4.5, L12 TB0.4/P4.4, M1 DVSS1, M2 VCORE, M3 DVSS, M4 P5.4, M5 TA0.0/P1.1, M6 TA0.3/P1.4, M7 TA0.2/P1.7, M8 TA1.1/P3.2, M9 TA2.0/P3.5, M10 TA2.2/P3.7, M11 TB0.1/P4.1, M12 TB0.3/P4.3

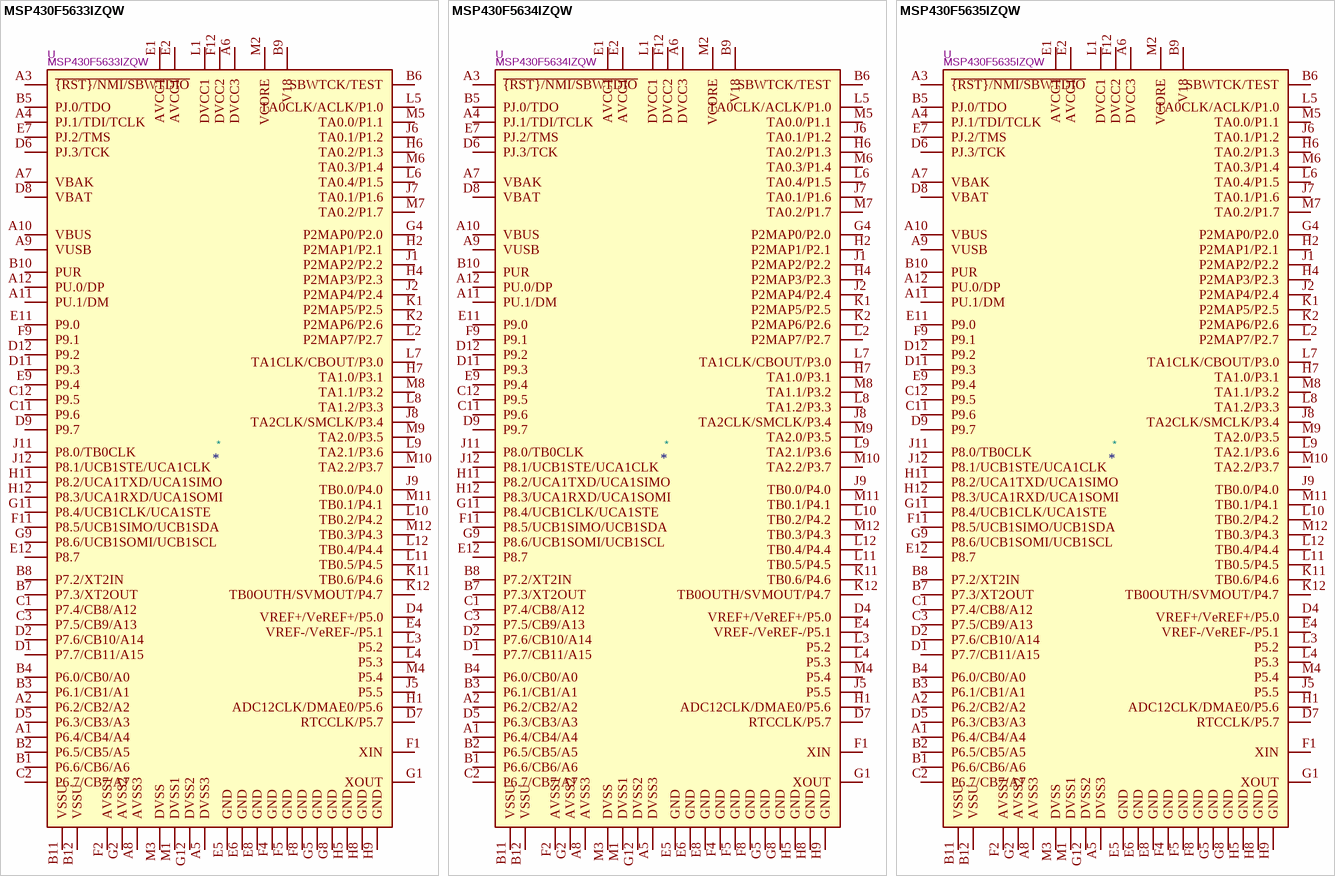
[diagram p18: symbols MSP430F5633IZQW to MSP430F5635IZQW]

## MSP430F5633IZQW
designator *  value MSP430F5633IZQW  Reference: U
ki_keywords: TI MSP430 16-bit mixed signal microcontroller; ki_description: 128kB Flash, 16kB + 2kB RAM, BGA-113; ki_fp_filters: Texas*MicroStar*Junior*BGA*7.0x7.0mm*Layout12x12*P0.5mm*; Footprint: Package_BGA:Texas_MicroStar_Junior_BGA-113_7.0x7.0mm_Layout12x12_P0.5mm; Datasheet: http://www.ti.com/lit/ds/symlink/msp430f5633.pdf
pins: A1 P6.4/CB4/A4, A2 P6.2/CB2/A2, A3 ~{{RST}/NMI/SBWTDIO}, A4 PJ.1/TDI/TCLK, A5 DVSS3, A6 DVCC3, A7 VBAK, A8 AVSS3, A9 VUSB, A10 VBUS, A11 PU.1/DM, A12 PU.0/DP, B1 P6.6/CB6/A6, B2 P6.5/CB5/A5, B3 P6.1/CB1/A1, B4 P6.0/CB0/A0, B5 PJ.0/TDO, B6 SBWTCK/TEST, B7 P7.3/XT2OUT, B8 P7.2/XT2IN, B9 V18, B10 PUR, B11 VSSU, B12 VSSU, C1 P7.4/CB8/A12, C2 P6.7/CB7/A7, C3 P7.5/CB9/A13, C11 P9.6, C12 P9.5, D1 P7.7/CB11/A15, D2 P7.6/CB10/A14, D4 VREF+/VeREF+/P5.0, D5 P6.3/CB3/A3, D6 PJ.3/TCK, D7 RTCCLK/P5.7, D8 VBAT, D9 P9.7, D11 P9.3, D12 P9.2, E1 AVCC1, E2 AVCC1, E4 VREF-/VeREF-/P5.1, E5 GND, E6 GND, E7 PJ.2/TMS, E8 GND, E9 P9.4, E11 P9.0, E12 P8.7, F1 XIN, F2 AVSS1, F4 GND, F5 GND, F8 GND, F9 P9.1, F11 P8.5/UCB1SIMO/UCB1SDA, F12 DVCC2, G1 XOUT, G2 AVSS2, G4 P2MAP0/P2.0, G5 GND, G8 GND, G9 P8.6/UCB1SOMI/UCB1SCL, G11 P8.4/UCB1CLK/UCA1STE, G12 DVSS2, H1 ADC12CLK/DMAE0/P5.6, H2 P2MAP1/P2.1, H4 P2MAP3/P2.3, H5 GND, H6 TA0.2/P1.3, H7 TA1.0/P3.1, H8 GND, H9 GND, H11 P8.2/UCA1TXD/UCA1SIMO, H12 P8.3/UCA1RXD/UCA1SOMI, J1 P2MAP2/P2.2, J2 P2MAP4/P2.4, J5 P5.5, J6 TA0.1/P1.2, J7 TA0.1/P1.6, J8 TA2CLK/SMCLK/P3.4, J9 TB0.0/P4.0, J11 P8.0/TB0CLK, J12 P8.1/UCB1STE/UCA1CLK, K1 P2MAP5/P2.5, K2 P2MAP6/P2.6, K11 TB0.6/P4.6, K12 TB0OUTH/SVMOUT/P4.7, L1 DVCC1, L2 P2MAP7/P2.7, L3 P5.2, L4 P5.3, L5 TA0CLK/ACLK/P1.0, L6 TA0.4/P1.5, L7 TA1CLK/CBOUT/P3.0, L8 TA1.2/P3.3, L9 TA2.1/P3.6, L10 TB0.2/P4.2, L11 TB0.5/P4.5, L12 TB0.4/P4.4, M1 DVSS1, M2 VCORE, M3 DVSS, M4 P5.4, M5 TA0.0/P1.1, M6 TA0.3/P1.4, M7 TA0.2/P1.7, M8 TA1.1/P3.2, M9 TA2.0/P3.5, M10 TA2.2/P3.7, M11 TB0.1/P4.1, M12 TB0.3/P4.3

## MSP430F5634IZQW
designator *  value MSP430F5634IZQW  Reference: U
ki_keywords: TI MSP430 16-bit mixed signal microcontroller; ki_description: 192kB Flash, 16kB + 2kB RAM, BGA-113; ki_fp_filters: Texas*MicroStar*Junior*BGA*7.0x7.0mm*Layout12x12*P0.5mm*; Footprint: Package_BGA:Texas_MicroStar_Junior_BGA-113_7.0x7.0mm_Layout12x12_P0.5mm; Datasheet: http://www.ti.com/lit/ds/symlink/msp430f5634.pdf
pins: A1 P6.4/CB4/A4, A2 P6.2/CB2/A2, A3 ~{{RST}/NMI/SBWTDIO}, A4 PJ.1/TDI/TCLK, A5 DVSS3, A6 DVCC3, A7 VBAK, A8 AVSS3, A9 VUSB, A10 VBUS, A11 PU.1/DM, A12 PU.0/DP, B1 P6.6/CB6/A6, B2 P6.5/CB5/A5, B3 P6.1/CB1/A1, B4 P6.0/CB0/A0, B5 PJ.0/TDO, B6 SBWTCK/TEST, B7 P7.3/XT2OUT, B8 P7.2/XT2IN, B9 V18, B10 PUR, B11 VSSU, B12 VSSU, C1 P7.4/CB8/A12, C2 P6.7/CB7/A7, C3 P7.5/CB9/A13, C11 P9.6, C12 P9.5, D1 P7.7/CB11/A15, D2 P7.6/CB10/A14, D4 VREF+/VeREF+/P5.0, D5 P6.3/CB3/A3, D6 PJ.3/TCK, D7 RTCCLK/P5.7, D8 VBAT, D9 P9.7, D11 P9.3, D12 P9.2, E1 AVCC1, E2 AVCC1, E4 VREF-/VeREF-/P5.1, E5 GND, E6 GND, E7 PJ.2/TMS, E8 GND, E9 P9.4, E11 P9.0, E12 P8.7, F1 XIN, F2 AVSS1, F4 GND, F5 GND, F8 GND, F9 P9.1, F11 P8.5/UCB1SIMO/UCB1SDA, F12 DVCC2, G1 XOUT, G2 AVSS2, G4 P2MAP0/P2.0, G5 GND, G8 GND, G9 P8.6/UCB1SOMI/UCB1SCL, G11 P8.4/UCB1CLK/UCA1STE, G12 DVSS2, H1 ADC12CLK/DMAE0/P5.6, H2 P2MAP1/P2.1, H4 P2MAP3/P2.3, H5 GND, H6 TA0.2/P1.3, H7 TA1.0/P3.1, H8 GND, H9 GND, H11 P8.2/UCA1TXD/UCA1SIMO, H12 P8.3/UCA1RXD/UCA1SOMI, J1 P2MAP2/P2.2, J2 P2MAP4/P2.4, J5 P5.5, J6 TA0.1/P1.2, J7 TA0.1/P1.6, J8 TA2CLK/SMCLK/P3.4, J9 TB0.0/P4.0, J11 P8.0/TB0CLK, J12 P8.1/UCB1STE/UCA1CLK, K1 P2MAP5/P2.5, K2 P2MAP6/P2.6, K11 TB0.6/P4.6, K12 TB0OUTH/SVMOUT/P4.7, L1 DVCC1, L2 P2MAP7/P2.7, L3 P5.2, L4 P5.3, L5 TA0CLK/ACLK/P1.0, L6 TA0.4/P1.5, L7 TA1CLK/CBOUT/P3.0, L8 TA1.2/P3.3, L9 TA2.1/P3.6, L10 TB0.2/P4.2, L11 TB0.5/P4.5, L12 TB0.4/P4.4, M1 DVSS1, M2 VCORE, M3 DVSS, M4 P5.4, M5 TA0.0/P1.1, M6 TA0.3/P1.4, M7 TA0.2/P1.7, M8 TA1.1/P3.2, M9 TA2.0/P3.5, M10 TA2.2/P3.7, M11 TB0.1/P4.1, M12 TB0.3/P4.3

## MSP430F5635IZQW
designator *  value MSP430F5635IZQW  Reference: U
ki_keywords: TI MSP430 16-bit mixed signal microcontroller; ki_description: 256kB Flash, 16kB + 2kB RAM, BGA-113; ki_fp_filters: Texas*MicroStar*Junior*BGA*7.0x7.0mm*Layout12x12*P0.5mm*; Footprint: Package_BGA:Texas_MicroStar_Junior_BGA-113_7.0x7.0mm_Layout12x12_P0.5mm; Datasheet: http://www.ti.com/lit/ds/symlink/msp430f5635.pdf
pins: A1 P6.4/CB4/A4, A2 P6.2/CB2/A2, A3 ~{{RST}/NMI/SBWTDIO}, A4 PJ.1/TDI/TCLK, A5 DVSS3, A6 DVCC3, A7 VBAK, A8 AVSS3, A9 VUSB, A10 VBUS, A11 PU.1/DM, A12 PU.0/DP, B1 P6.6/CB6/A6, B2 P6.5/CB5/A5, B3 P6.1/CB1/A1, B4 P6.0/CB0/A0, B5 PJ.0/TDO, B6 SBWTCK/TEST, B7 P7.3/XT2OUT, B8 P7.2/XT2IN, B9 V18, B10 PUR, B11 VSSU, B12 VSSU, C1 P7.4/CB8/A12, C2 P6.7/CB7/A7, C3 P7.5/CB9/A13, C11 P9.6, C12 P9.5, D1 P7.7/CB11/A15, D2 P7.6/CB10/A14, D4 VREF+/VeREF+/P5.0, D5 P6.3/CB3/A3, D6 PJ.3/TCK, D7 RTCCLK/P5.7, D8 VBAT, D9 P9.7, D11 P9.3, D12 P9.2, E1 AVCC1, E2 AVCC1, E4 VREF-/VeREF-/P5.1, E5 GND, E6 GND, E7 PJ.2/TMS, E8 GND, E9 P9.4, E11 P9.0, E12 P8.7, F1 XIN, F2 AVSS1, F4 GND, F5 GND, F8 GND, F9 P9.1, F11 P8.5/UCB1SIMO/UCB1SDA, F12 DVCC2, G1 XOUT, G2 AVSS2, G4 P2MAP0/P2.0, G5 GND, G8 GND, G9 P8.6/UCB1SOMI/UCB1SCL, G11 P8.4/UCB1CLK/UCA1STE, G12 DVSS2, H1 ADC12CLK/DMAE0/P5.6, H2 P2MAP1/P2.1, H4 P2MAP3/P2.3, H5 GND, H6 TA0.2/P1.3, H7 TA1.0/P3.1, H8 GND, H9 GND, H11 P8.2/UCA1TXD/UCA1SIMO, H12 P8.3/UCA1RXD/UCA1SOMI, J1 P2MAP2/P2.2, J2 P2MAP4/P2.4, J5 P5.5, J6 TA0.1/P1.2, J7 TA0.1/P1.6, J8 TA2CLK/SMCLK/P3.4, J9 TB0.0/P4.0, J11 P8.0/TB0CLK, J12 P8.1/UCB1STE/UCA1CLK, K1 P2MAP5/P2.5, K2 P2MAP6/P2.6, K11 TB0.6/P4.6, K12 TB0OUTH/SVMOUT/P4.7, L1 DVCC1, L2 P2MAP7/P2.7, L3 P5.2, L4 P5.3, L5 TA0CLK/ACLK/P1.0, L6 TA0.4/P1.5, L7 TA1CLK/CBOUT/P3.0, L8 TA1.2/P3.3, L9 TA2.1/P3.6, L10 TB0.2/P4.2, L11 TB0.5/P4.5, L12 TB0.4/P4.4, M1 DVSS1, M2 VCORE, M3 DVSS, M4 P5.4, M5 TA0.0/P1.1, M6 TA0.3/P1.4, M7 TA0.2/P1.7, M8 TA1.1/P3.2, M9 TA2.0/P3.5, M10 TA2.2/P3.7, M11 TB0.1/P4.1, M12 TB0.3/P4.3

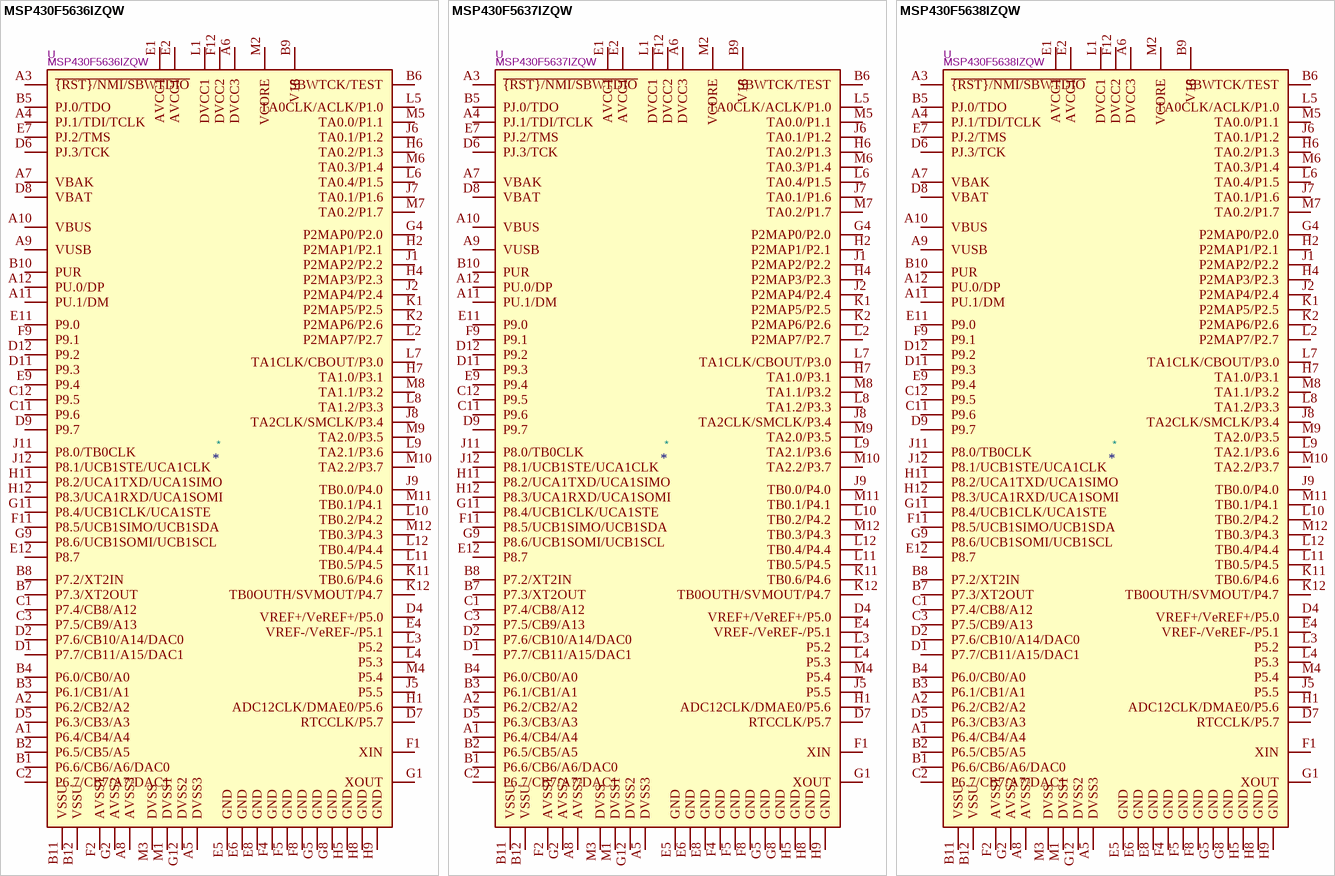
[diagram p19: symbols MSP430F5636IZQW to MSP430F5638IZQW]

## MSP430F5636IZQW
designator *  value MSP430F5636IZQW  Reference: U
ki_keywords: TI MSP430 16-bit mixed signal microcontroller; ki_description: 128kB Flash, 16kB + 2kB RAM, BGA-113; ki_fp_filters: Texas*MicroStar*Junior*BGA*7.0x7.0mm*Layout12x12*P0.5mm*; Footprint: Package_BGA:Texas_MicroStar_Junior_BGA-113_7.0x7.0mm_Layout12x12_P0.5mm; Datasheet: http://www.ti.com/lit/ds/symlink/msp430f5636.pdf
pins: A1 P6.4/CB4/A4, A2 P6.2/CB2/A2, A3 ~{{RST}/NMI/SBWTDIO}, A4 PJ.1/TDI/TCLK, A5 DVSS3, A6 DVCC3, A7 VBAK, A8 AVSS3, A9 VUSB, A10 VBUS, A11 PU.1/DM, A12 PU.0/DP, B1 P6.6/CB6/A6/DAC0, B2 P6.5/CB5/A5, B3 P6.1/CB1/A1, B4 P6.0/CB0/A0, B5 PJ.0/TDO, B6 SBWTCK/TEST, B7 P7.3/XT2OUT, B8 P7.2/XT2IN, B9 V18, B10 PUR, B11 VSSU, B12 VSSU, C1 P7.4/CB8/A12, C2 P6.7/CB7/A7/DAC1, C3 P7.5/CB9/A13, C11 P9.6, C12 P9.5, D1 P7.7/CB11/A15/DAC1, D2 P7.6/CB10/A14/DAC0, D4 VREF+/VeREF+/P5.0, D5 P6.3/CB3/A3, D6 PJ.3/TCK, D7 RTCCLK/P5.7, D8 VBAT, D9 P9.7, D11 P9.3, D12 P9.2, E1 AVCC1, E2 AVCC1, E4 VREF-/VeREF-/P5.1, E5 GND, E6 GND, E7 PJ.2/TMS, E8 GND, E9 P9.4, E11 P9.0, E12 P8.7, F1 XIN, F2 AVSS1, F4 GND, F5 GND, F8 GND, F9 P9.1, F11 P8.5/UCB1SIMO/UCB1SDA, F12 DVCC2, G1 XOUT, G2 AVSS2, G4 P2MAP0/P2.0, G5 GND, G8 GND, G9 P8.6/UCB1SOMI/UCB1SCL, G11 P8.4/UCB1CLK/UCA1STE, G12 DVSS2, H1 ADC12CLK/DMAE0/P5.6, H2 P2MAP1/P2.1, H4 P2MAP3/P2.3, H5 GND, H6 TA0.2/P1.3, H7 TA1.0/P3.1, H8 GND, H9 GND, H11 P8.2/UCA1TXD/UCA1SIMO, H12 P8.3/UCA1RXD/UCA1SOMI, J1 P2MAP2/P2.2, J2 P2MAP4/P2.4, J5 P5.5, J6 TA0.1/P1.2, J7 TA0.1/P1.6, J8 TA2CLK/SMCLK/P3.4, J9 TB0.0/P4.0, J11 P8.0/TB0CLK, J12 P8.1/UCB1STE/UCA1CLK, K1 P2MAP5/P2.5, K2 P2MAP6/P2.6, K11 TB0.6/P4.6, K12 TB0OUTH/SVMOUT/P4.7, L1 DVCC1, L2 P2MAP7/P2.7, L3 P5.2, L4 P5.3, L5 TA0CLK/ACLK/P1.0, L6 TA0.4/P1.5, L7 TA1CLK/CBOUT/P3.0, L8 TA1.2/P3.3, L9 TA2.1/P3.6, L10 TB0.2/P4.2, L11 TB0.5/P4.5, L12 TB0.4/P4.4, M1 DVSS1, M2 VCORE, M3 DVSS, M4 P5.4, M5 TA0.0/P1.1, M6 TA0.3/P1.4, M7 TA0.2/P1.7, M8 TA1.1/P3.2, M9 TA2.0/P3.5, M10 TA2.2/P3.7, M11 TB0.1/P4.1, M12 TB0.3/P4.3

## MSP430F5637IZQW
designator *  value MSP430F5637IZQW  Reference: U
ki_keywords: TI MSP430 16-bit mixed signal microcontroller; ki_description: 192kB Flash, 16kB + 2kB RAM, BGA-113; ki_fp_filters: Texas*MicroStar*Junior*BGA*7.0x7.0mm*Layout12x12*P0.5mm*; Footprint: Package_BGA:Texas_MicroStar_Junior_BGA-113_7.0x7.0mm_Layout12x12_P0.5mm; Datasheet: http://www.ti.com/lit/ds/symlink/msp430f5637.pdf
pins: A1 P6.4/CB4/A4, A2 P6.2/CB2/A2, A3 ~{{RST}/NMI/SBWTDIO}, A4 PJ.1/TDI/TCLK, A5 DVSS3, A6 DVCC3, A7 VBAK, A8 AVSS3, A9 VUSB, A10 VBUS, A11 PU.1/DM, A12 PU.0/DP, B1 P6.6/CB6/A6/DAC0, B2 P6.5/CB5/A5, B3 P6.1/CB1/A1, B4 P6.0/CB0/A0, B5 PJ.0/TDO, B6 SBWTCK/TEST, B7 P7.3/XT2OUT, B8 P7.2/XT2IN, B9 V18, B10 PUR, B11 VSSU, B12 VSSU, C1 P7.4/CB8/A12, C2 P6.7/CB7/A7/DAC1, C3 P7.5/CB9/A13, C11 P9.6, C12 P9.5, D1 P7.7/CB11/A15/DAC1, D2 P7.6/CB10/A14/DAC0, D4 VREF+/VeREF+/P5.0, D5 P6.3/CB3/A3, D6 PJ.3/TCK, D7 RTCCLK/P5.7, D8 VBAT, D9 P9.7, D11 P9.3, D12 P9.2, E1 AVCC1, E2 AVCC1, E4 VREF-/VeREF-/P5.1, E5 GND, E6 GND, E7 PJ.2/TMS, E8 GND, E9 P9.4, E11 P9.0, E12 P8.7, F1 XIN, F2 AVSS1, F4 GND, F5 GND, F8 GND, F9 P9.1, F11 P8.5/UCB1SIMO/UCB1SDA, F12 DVCC2, G1 XOUT, G2 AVSS2, G4 P2MAP0/P2.0, G5 GND, G8 GND, G9 P8.6/UCB1SOMI/UCB1SCL, G11 P8.4/UCB1CLK/UCA1STE, G12 DVSS2, H1 ADC12CLK/DMAE0/P5.6, H2 P2MAP1/P2.1, H4 P2MAP3/P2.3, H5 GND, H6 TA0.2/P1.3, H7 TA1.0/P3.1, H8 GND, H9 GND, H11 P8.2/UCA1TXD/UCA1SIMO, H12 P8.3/UCA1RXD/UCA1SOMI, J1 P2MAP2/P2.2, J2 P2MAP4/P2.4, J5 P5.5, J6 TA0.1/P1.2, J7 TA0.1/P1.6, J8 TA2CLK/SMCLK/P3.4, J9 TB0.0/P4.0, J11 P8.0/TB0CLK, J12 P8.1/UCB1STE/UCA1CLK, K1 P2MAP5/P2.5, K2 P2MAP6/P2.6, K11 TB0.6/P4.6, K12 TB0OUTH/SVMOUT/P4.7, L1 DVCC1, L2 P2MAP7/P2.7, L3 P5.2, L4 P5.3, L5 TA0CLK/ACLK/P1.0, L6 TA0.4/P1.5, L7 TA1CLK/CBOUT/P3.0, L8 TA1.2/P3.3, L9 TA2.1/P3.6, L10 TB0.2/P4.2, L11 TB0.5/P4.5, L12 TB0.4/P4.4, M1 DVSS1, M2 VCORE, M3 DVSS, M4 P5.4, M5 TA0.0/P1.1, M6 TA0.3/P1.4, M7 TA0.2/P1.7, M8 TA1.1/P3.2, M9 TA2.0/P3.5, M10 TA2.2/P3.7, M11 TB0.1/P4.1, M12 TB0.3/P4.3

## MSP430F5638IZQW
designator *  value MSP430F5638IZQW  Reference: U
ki_keywords: TI MSP430 16-bit mixed signal microcontroller; ki_description: 256kB Flash, 16kB + 2kB RAM, BGA-113; ki_fp_filters: Texas*MicroStar*Junior*BGA*7.0x7.0mm*Layout12x12*P0.5mm*; Footprint: Package_BGA:Texas_MicroStar_Junior_BGA-113_7.0x7.0mm_Layout12x12_P0.5mm; Datasheet: http://www.ti.com/lit/ds/symlink/msp430f5638.pdf
pins: A1 P6.4/CB4/A4, A2 P6.2/CB2/A2, A3 ~{{RST}/NMI/SBWTDIO}, A4 PJ.1/TDI/TCLK, A5 DVSS3, A6 DVCC3, A7 VBAK, A8 AVSS3, A9 VUSB, A10 VBUS, A11 PU.1/DM, A12 PU.0/DP, B1 P6.6/CB6/A6/DAC0, B2 P6.5/CB5/A5, B3 P6.1/CB1/A1, B4 P6.0/CB0/A0, B5 PJ.0/TDO, B6 SBWTCK/TEST, B7 P7.3/XT2OUT, B8 P7.2/XT2IN, B9 V18, B10 PUR, B11 VSSU, B12 VSSU, C1 P7.4/CB8/A12, C2 P6.7/CB7/A7/DAC1, C3 P7.5/CB9/A13, C11 P9.6, C12 P9.5, D1 P7.7/CB11/A15/DAC1, D2 P7.6/CB10/A14/DAC0, D4 VREF+/VeREF+/P5.0, D5 P6.3/CB3/A3, D6 PJ.3/TCK, D7 RTCCLK/P5.7, D8 VBAT, D9 P9.7, D11 P9.3, D12 P9.2, E1 AVCC1, E2 AVCC1, E4 VREF-/VeREF-/P5.1, E5 GND, E6 GND, E7 PJ.2/TMS, E8 GND, E9 P9.4, E11 P9.0, E12 P8.7, F1 XIN, F2 AVSS1, F4 GND, F5 GND, F8 GND, F9 P9.1, F11 P8.5/UCB1SIMO/UCB1SDA, F12 DVCC2, G1 XOUT, G2 AVSS2, G4 P2MAP0/P2.0, G5 GND, G8 GND, G9 P8.6/UCB1SOMI/UCB1SCL, G11 P8.4/UCB1CLK/UCA1STE, G12 DVSS2, H1 ADC12CLK/DMAE0/P5.6, H2 P2MAP1/P2.1, H4 P2MAP3/P2.3, H5 GND, H6 TA0.2/P1.3, H7 TA1.0/P3.1, H8 GND, H9 GND, H11 P8.2/UCA1TXD/UCA1SIMO, H12 P8.3/UCA1RXD/UCA1SOMI, J1 P2MAP2/P2.2, J2 P2MAP4/P2.4, J5 P5.5, J6 TA0.1/P1.2, J7 TA0.1/P1.6, J8 TA2CLK/SMCLK/P3.4, J9 TB0.0/P4.0, J11 P8.0/TB0CLK, J12 P8.1/UCB1STE/UCA1CLK, K1 P2MAP5/P2.5, K2 P2MAP6/P2.6, K11 TB0.6/P4.6, K12 TB0OUTH/SVMOUT/P4.7, L1 DVCC1, L2 P2MAP7/P2.7, L3 P5.2, L4 P5.3, L5 TA0CLK/ACLK/P1.0, L6 TA0.4/P1.5, L7 TA1CLK/CBOUT/P3.0, L8 TA1.2/P3.3, L9 TA2.1/P3.6, L10 TB0.2/P4.2, L11 TB0.5/P4.5, L12 TB0.4/P4.4, M1 DVSS1, M2 VCORE, M3 DVSS, M4 P5.4, M5 TA0.0/P1.1, M6 TA0.3/P1.4, M7 TA0.2/P1.7, M8 TA1.1/P3.2, M9 TA2.0/P3.5, M10 TA2.2/P3.7, M11 TB0.1/P4.1, M12 TB0.3/P4.3

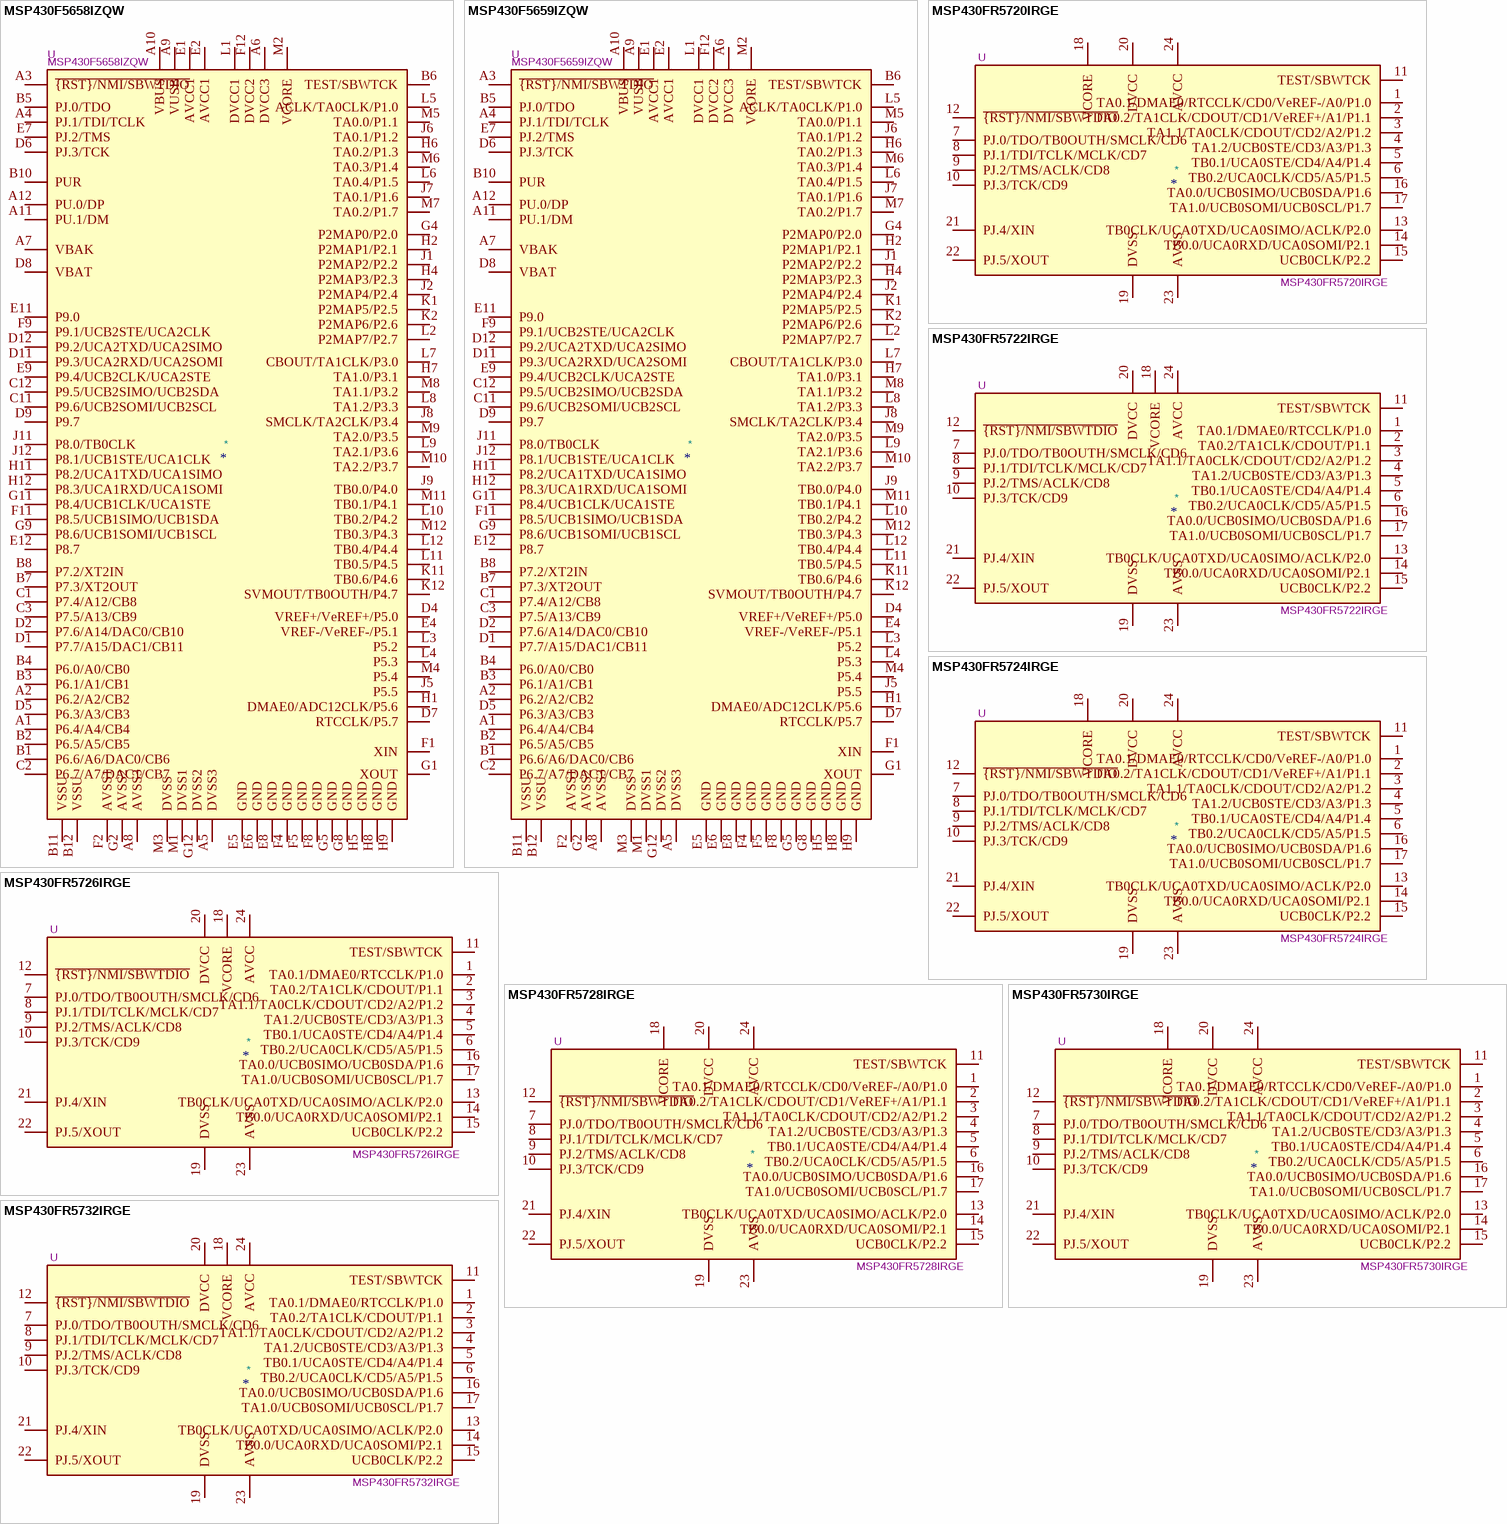
[diagram p20: symbols MSP430F5658IZQW to MSP430FR5732IRGE]

## MSP430F5658IZQW
designator *  value MSP430F5658IZQW  Reference: U
ki_keywords: TI MSP430 16-bit mixed signal microcontroller; ki_description: 384kB Flash, 32kB + 2kB RAM, BGA-113; ki_fp_filters: Texas*MicroStar*Junior*BGA*7.0x7.0mm*Layout12x12*P0.5mm*; Footprint: Package_BGA:Texas_MicroStar_Junior_BGA-113_7.0x7.0mm_Layout12x12_P0.5mm; Datasheet: http://www.ti.com/lit/ds/symlink/msp430f5658.pdf
pins: A1 P6.4/A4/CB4, A2 P6.2/A2/CB2, A3 ~{{RST}/NMI/SBWTDIO}, A4 PJ.1/TDI/TCLK, A5 DVSS3, A6 DVCC3, A7 VBAK, A8 AVSS3, A9 VUSB, A10 VBUS, A11 PU.1/DM, A12 PU.0/DP, B1 P6.6/A6/DAC0/CB6, B2 P6.5/A5/CB5, B3 P6.1/A1/CB1, B4 P6.0/A0/CB0, B5 PJ.0/TDO, B6 TEST/SBWTCK, B7 P7.3/XT2OUT, B8 P7.2/XT2IN, B10 PUR, B11 VSSU, B12 VSSU, C1 P7.4/A12/CB8, C2 P6.7/A7/DAC1/CB7, C3 P7.5/A13/CB9, C11 P9.6/UCB2SOMI/UCB2SCL, C12 P9.5/UCB2SIMO/UCB2SDA, D1 P7.7/A15/DAC1/CB11, D2 P7.6/A14/DAC0/CB10, D4 VREF+/VeREF+/P5.0, D5 P6.3/A3/CB3, D6 PJ.3/TCK, D7 RTCCLK/P5.7, D8 VBAT, D9 P9.7, D11 P9.3/UCA2RXD/UCA2SOMI, D12 P9.2/UCA2TXD/UCA2SIMO, E1 AVCC1, E2 AVCC1, E4 VREF-/VeREF-/P5.1, E5 GND, E6 GND, E7 PJ.2/TMS, E8 GND, E9 P9.4/UCB2CLK/UCA2STE, E11 P9.0, E12 P8.7, F1 XIN, F2 AVSS1, F4 GND, F5 GND, F8 GND, F9 P9.1/UCB2STE/UCA2CLK, F11 P8.5/UCB1SIMO/UCB1SDA, F12 DVCC2, G1 XOUT, G2 AVSS2, G4 P2MAP0/P2.0, G5 GND, G8 GND, G9 P8.6/UCB1SOMI/UCB1SCL, G11 P8.4/UCB1CLK/UCA1STE, G12 DVSS2, H1 DMAE0/ADC12CLK/P5.6, H2 P2MAP1/P2.1, H4 P2MAP3/P2.3, H5 GND, H6 TA0.2/P1.3, H7 TA1.0/P3.1, H8 GND, H9 GND, H11 P8.2/UCA1TXD/UCA1SIMO, H12 P8.3/UCA1RXD/UCA1SOMI, J1 P2MAP2/P2.2, J2 P2MAP4/P2.4, J5 P5.5, J6 TA0.1/P1.2, J7 TA0.1/P1.6, J8 SMCLK/TA2CLK/P3.4, J9 TB0.0/P4.0, J11 P8.0/TB0CLK, J12 P8.1/UCB1STE/UCA1CLK, K1 P2MAP5/P2.5, K2 P2MAP6/P2.6, K11 TB0.6/P4.6, K12 SVMOUT/TB0OUTH/P4.7, L1 DVCC1, L2 P2MAP7/P2.7, L3 P5.2, L4 P5.3, L5 ACLK/TA0CLK/P1.0, L6 TA0.4/P1.5, L7 CBOUT/TA1CLK/P3.0, L8 TA1.2/P3.3, L9 TA2.1/P3.6, L10 TB0.2/P4.2, L11 TB0.5/P4.5, L12 TB0.4/P4.4, M1 DVSS1, M2 VCORE, M3 DVSS, M4 P5.4, M5 TA0.0/P1.1, M6 TA0.3/P1.4, M7 TA0.2/P1.7, M8 TA1.1/P3.2, M9 TA2.0/P3.5, M10 TA2.2/P3.7, M11 TB0.1/P4.1, M12 TB0.3/P4.3

## MSP430F5659IZQW
designator *  value MSP430F5659IZQW  Reference: U
ki_keywords: TI MSP430 16-bit mixed signal microcontroller; ki_description: 512kB Flash, 64kB + 2kB RAM, BGA-113; ki_fp_filters: Texas*MicroStar*Junior*BGA*7.0x7.0mm*Layout12x12*P0.5mm*; Footprint: Package_BGA:Texas_MicroStar_Junior_BGA-113_7.0x7.0mm_Layout12x12_P0.5mm; Datasheet: http://www.ti.com/lit/ds/symlink/msp430f5659.pdf
pins: A1 P6.4/A4/CB4, A2 P6.2/A2/CB2, A3 ~{{RST}/NMI/SBWTDIO}, A4 PJ.1/TDI/TCLK, A5 DVSS3, A6 DVCC3, A7 VBAK, A8 AVSS3, A9 VUSB, A10 VBUS, A11 PU.1/DM, A12 PU.0/DP, B1 P6.6/A6/DAC0/CB6, B2 P6.5/A5/CB5, B3 P6.1/A1/CB1, B4 P6.0/A0/CB0, B5 PJ.0/TDO, B6 TEST/SBWTCK, B7 P7.3/XT2OUT, B8 P7.2/XT2IN, B10 PUR, B11 VSSU, B12 VSSU, C1 P7.4/A12/CB8, C2 P6.7/A7/DAC1/CB7, C3 P7.5/A13/CB9, C11 P9.6/UCB2SOMI/UCB2SCL, C12 P9.5/UCB2SIMO/UCB2SDA, D1 P7.7/A15/DAC1/CB11, D2 P7.6/A14/DAC0/CB10, D4 VREF+/VeREF+/P5.0, D5 P6.3/A3/CB3, D6 PJ.3/TCK, D7 RTCCLK/P5.7, D8 VBAT, D9 P9.7, D11 P9.3/UCA2RXD/UCA2SOMI, D12 P9.2/UCA2TXD/UCA2SIMO, E1 AVCC1, E2 AVCC1, E4 VREF-/VeREF-/P5.1, E5 GND, E6 GND, E7 PJ.2/TMS, E8 GND, E9 P9.4/UCB2CLK/UCA2STE, E11 P9.0, E12 P8.7, F1 XIN, F2 AVSS1, F4 GND, F5 GND, F8 GND, F9 P9.1/UCB2STE/UCA2CLK, F11 P8.5/UCB1SIMO/UCB1SDA, F12 DVCC2, G1 XOUT, G2 AVSS2, G4 P2MAP0/P2.0, G5 GND, G8 GND, G9 P8.6/UCB1SOMI/UCB1SCL, G11 P8.4/UCB1CLK/UCA1STE, G12 DVSS2, H1 DMAE0/ADC12CLK/P5.6, H2 P2MAP1/P2.1, H4 P2MAP3/P2.3, H5 GND, H6 TA0.2/P1.3, H7 TA1.0/P3.1, H8 GND, H9 GND, H11 P8.2/UCA1TXD/UCA1SIMO, H12 P8.3/UCA1RXD/UCA1SOMI, J1 P2MAP2/P2.2, J2 P2MAP4/P2.4, J5 P5.5, J6 TA0.1/P1.2, J7 TA0.1/P1.6, J8 SMCLK/TA2CLK/P3.4, J9 TB0.0/P4.0, J11 P8.0/TB0CLK, J12 P8.1/UCB1STE/UCA1CLK, K1 P2MAP5/P2.5, K2 P2MAP6/P2.6, K11 TB0.6/P4.6, K12 SVMOUT/TB0OUTH/P4.7, L1 DVCC1, L2 P2MAP7/P2.7, L3 P5.2, L4 P5.3, L5 ACLK/TA0CLK/P1.0, L6 TA0.4/P1.5, L7 CBOUT/TA1CLK/P3.0, L8 TA1.2/P3.3, L9 TA2.1/P3.6, L10 TB0.2/P4.2, L11 TB0.5/P4.5, L12 TB0.4/P4.4, M1 DVSS1, M2 VCORE, M3 DVSS, M4 P5.4, M5 TA0.0/P1.1, M6 TA0.3/P1.4, M7 TA0.2/P1.7, M8 TA1.1/P3.2, M9 TA2.0/P3.5, M10 TA2.2/P3.7, M11 TB0.1/P4.1, M12 TB0.3/P4.3

## MSP430FR5720IRGE
designator *  value MSP430FR5720IRGE  Reference: U
ki_keywords: TI MSP430 16-bit mixed signal microcontroller; ki_description: 4kB FRAM, 1kB SRAM, QFN-24; ki_fp_filters: Texas*S?PVQFN*; Footprint: Package_DFN_QFN:Texas_S-PVQFN-N24_EP2.1x2.1mm; Datasheet: http://www.ti.com/lit/ds/symlink/msp430fr5720.pdf
pins: 1 TA0.1/DMAE0/RTCCLK/CD0/VeREF-/A0/P1.0, 2 TA0.2/TA1CLK/CDOUT/CD1/VeREF+/A1/P1.1, 3 TA1.1/TA0CLK/CDOUT/CD2/A2/P1.2, 4 TA1.2/UCB0STE/CD3/A3/P1.3, 5 TB0.1/UCA0STE/CD4/A4/P1.4, 6 TB0.2/UCA0CLK/CD5/A5/P1.5, 7 PJ.0/TDO/TB0OUTH/SMCLK/CD6, 8 PJ.1/TDI/TCLK/MCLK/CD7, 9 PJ.2/TMS/ACLK/CD8, 10 PJ.3/TCK/CD9, 11 TEST/SBWTCK, 12 ~{{RST}/NMI/SBWTDIO}, 13 TB0CLK/UCA0TXD/UCA0SIMO/ACLK/P2.0, 14 TB0.0/UCA0RXD/UCA0SOMI/P2.1, 15 UCB0CLK/P2.2, 16 TA0.0/UCB0SIMO/UCB0SDA/P1.6, 17 TA1.0/UCB0SOMI/UCB0SCL/P1.7, 18 VCORE, 19 DVSS, 20 DVCC, 21 PJ.4/XIN, 22 PJ.5/XOUT, 23 AVSS, 24 AVCC

## MSP430FR5722IRGE
designator *  value MSP430FR5722IRGE  Reference: U
ki_keywords: TI MSP430 16-bit mixed signal microcontroller; ki_description: 8kB FRAM, 1kB SRAM, QFN-24; ki_fp_filters: Texas*S?PVQFN*; Footprint: Package_DFN_QFN:Texas_S-PVQFN-N24_EP2.1x2.1mm; Datasheet: http://www.ti.com/lit/ds/symlink/msp430fr5722.pdf
pins: 1 TA0.1/DMAE0/RTCCLK/P1.0, 2 TA0.2/TA1CLK/CDOUT/P1.1, 3 TA1.1/TA0CLK/CDOUT/CD2/A2/P1.2, 4 TA1.2/UCB0STE/CD3/A3/P1.3, 5 TB0.1/UCA0STE/CD4/A4/P1.4, 6 TB0.2/UCA0CLK/CD5/A5/P1.5, 7 PJ.0/TDO/TB0OUTH/SMCLK/CD6, 8 PJ.1/TDI/TCLK/MCLK/CD7, 9 PJ.2/TMS/ACLK/CD8, 10 PJ.3/TCK/CD9, 11 TEST/SBWTCK, 12 ~{{RST}/NMI/SBWTDIO}, 13 TB0CLK/UCA0TXD/UCA0SIMO/ACLK/P2.0, 14 TB0.0/UCA0RXD/UCA0SOMI/P2.1, 15 UCB0CLK/P2.2, 16 TA0.0/UCB0SIMO/UCB0SDA/P1.6, 17 TA1.0/UCB0SOMI/UCB0SCL/P1.7, 18 VCORE, 19 DVSS, 20 DVCC, 21 PJ.4/XIN, 22 PJ.5/XOUT, 23 AVSS, 24 AVCC

## MSP430FR5724IRGE
designator *  value MSP430FR5724IRGE  Reference: U
ki_keywords: TI MSP430 16-bit mixed signal microcontroller; ki_description: 8kB FRAM, 1kB SRAM, QFN-24; ki_fp_filters: Texas*S?PVQFN*; Footprint: Package_DFN_QFN:Texas_S-PVQFN-N24_EP2.1x2.1mm; Datasheet: http://www.ti.com/lit/ds/symlink/msp430fr5724.pdf
pins: 1 TA0.1/DMAE0/RTCCLK/CD0/VeREF-/A0/P1.0, 2 TA0.2/TA1CLK/CDOUT/CD1/VeREF+/A1/P1.1, 3 TA1.1/TA0CLK/CDOUT/CD2/A2/P1.2, 4 TA1.2/UCB0STE/CD3/A3/P1.3, 5 TB0.1/UCA0STE/CD4/A4/P1.4, 6 TB0.2/UCA0CLK/CD5/A5/P1.5, 7 PJ.0/TDO/TB0OUTH/SMCLK/CD6, 8 PJ.1/TDI/TCLK/MCLK/CD7, 9 PJ.2/TMS/ACLK/CD8, 10 PJ.3/TCK/CD9, 11 TEST/SBWTCK, 12 ~{{RST}/NMI/SBWTDIO}, 13 TB0CLK/UCA0TXD/UCA0SIMO/ACLK/P2.0, 14 TB0.0/UCA0RXD/UCA0SOMI/P2.1, 15 UCB0CLK/P2.2, 16 TA0.0/UCB0SIMO/UCB0SDA/P1.6, 17 TA1.0/UCB0SOMI/UCB0SCL/P1.7, 18 VCORE, 19 DVSS, 20 DVCC, 21 PJ.4/XIN, 22 PJ.5/XOUT, 23 AVSS, 24 AVCC

## MSP430FR5726IRGE
designator *  value MSP430FR5726IRGE  Reference: U
ki_keywords: TI MSP430 16-bit mixed signal microcontroller; ki_description: 16kB FRAM, 1kB SRAM, QFN-24; ki_fp_filters: Texas*S?PVQFN*; Footprint: Package_DFN_QFN:Texas_S-PVQFN-N24_EP2.1x2.1mm; Datasheet: http://www.ti.com/lit/ds/symlink/msp430fr5726.pdf
pins: 1 TA0.1/DMAE0/RTCCLK/P1.0, 2 TA0.2/TA1CLK/CDOUT/P1.1, 3 TA1.1/TA0CLK/CDOUT/CD2/A2/P1.2, 4 TA1.2/UCB0STE/CD3/A3/P1.3, 5 TB0.1/UCA0STE/CD4/A4/P1.4, 6 TB0.2/UCA0CLK/CD5/A5/P1.5, 7 PJ.0/TDO/TB0OUTH/SMCLK/CD6, 8 PJ.1/TDI/TCLK/MCLK/CD7, 9 PJ.2/TMS/ACLK/CD8, 10 PJ.3/TCK/CD9, 11 TEST/SBWTCK, 12 ~{{RST}/NMI/SBWTDIO}, 13 TB0CLK/UCA0TXD/UCA0SIMO/ACLK/P2.0, 14 TB0.0/UCA0RXD/UCA0SOMI/P2.1, 15 UCB0CLK/P2.2, 16 TA0.0/UCB0SIMO/UCB0SDA/P1.6, 17 TA1.0/UCB0SOMI/UCB0SCL/P1.7, 18 VCORE, 19 DVSS, 20 DVCC, 21 PJ.4/XIN, 22 PJ.5/XOUT, 23 AVSS, 24 AVCC

## MSP430FR5728IRGE
designator *  value MSP430FR5728IRGE  Reference: U
ki_keywords: TI MSP430 16-bit mixed signal microcontroller; ki_description: 16kB FRAM, 1kB SRAM, QFN-24; ki_fp_filters: Texas*S?PVQFN*; Footprint: Package_DFN_QFN:Texas_S-PVQFN-N24_EP2.1x2.1mm; Datasheet: http://www.ti.com/lit/ds/symlink/msp430fr5728.pdf
pins: 1 TA0.1/DMAE0/RTCCLK/CD0/VeREF-/A0/P1.0, 2 TA0.2/TA1CLK/CDOUT/CD1/VeREF+/A1/P1.1, 3 TA1.1/TA0CLK/CDOUT/CD2/A2/P1.2, 4 TA1.2/UCB0STE/CD3/A3/P1.3, 5 TB0.1/UCA0STE/CD4/A4/P1.4, 6 TB0.2/UCA0CLK/CD5/A5/P1.5, 7 PJ.0/TDO/TB0OUTH/SMCLK/CD6, 8 PJ.1/TDI/TCLK/MCLK/CD7, 9 PJ.2/TMS/ACLK/CD8, 10 PJ.3/TCK/CD9, 11 TEST/SBWTCK, 12 ~{{RST}/NMI/SBWTDIO}, 13 TB0CLK/UCA0TXD/UCA0SIMO/ACLK/P2.0, 14 TB0.0/UCA0RXD/UCA0SOMI/P2.1, 15 UCB0CLK/P2.2, 16 TA0.0/UCB0SIMO/UCB0SDA/P1.6, 17 TA1.0/UCB0SOMI/UCB0SCL/P1.7, 18 VCORE, 19 DVSS, 20 DVCC, 21 PJ.4/XIN, 22 PJ.5/XOUT, 23 AVSS, 24 AVCC

## MSP430FR5730IRGE
designator *  value MSP430FR5730IRGE  Reference: U
ki_keywords: TI MSP430 16-bit mixed signal microcontroller; ki_description: 4kB FRAM, 1kB SRAM, QFN-24; ki_fp_filters: Texas*S?PVQFN*; Footprint: Package_DFN_QFN:Texas_S-PVQFN-N24_EP2.1x2.1mm; Datasheet: http://www.ti.com/lit/ds/symlink/msp430fr5730.pdf
pins: 1 TA0.1/DMAE0/RTCCLK/CD0/VeREF-/A0/P1.0, 2 TA0.2/TA1CLK/CDOUT/CD1/VeREF+/A1/P1.1, 3 TA1.1/TA0CLK/CDOUT/CD2/A2/P1.2, 4 TA1.2/UCB0STE/CD3/A3/P1.3, 5 TB0.1/UCA0STE/CD4/A4/P1.4, 6 TB0.2/UCA0CLK/CD5/A5/P1.5, 7 PJ.0/TDO/TB0OUTH/SMCLK/CD6, 8 PJ.1/TDI/TCLK/MCLK/CD7, 9 PJ.2/TMS/ACLK/CD8, 10 PJ.3/TCK/CD9, 11 TEST/SBWTCK, 12 ~{{RST}/NMI/SBWTDIO}, 13 TB0CLK/UCA0TXD/UCA0SIMO/ACLK/P2.0, 14 TB0.0/UCA0RXD/UCA0SOMI/P2.1, 15 UCB0CLK/P2.2, 16 TA0.0/UCB0SIMO/UCB0SDA/P1.6, 17 TA1.0/UCB0SOMI/UCB0SCL/P1.7, 18 VCORE, 19 DVSS, 20 DVCC, 21 PJ.4/XIN, 22 PJ.5/XOUT, 23 AVSS, 24 AVCC

## MSP430FR5732IRGE
designator *  value MSP430FR5732IRGE  Reference: U
ki_keywords: TI MSP430 16-bit mixed signal microcontroller; ki_description: 8kB FRAM, 1kB SRAM, QFN-24; ki_fp_filters: Texas*S?PVQFN*; Footprint: Package_DFN_QFN:Texas_S-PVQFN-N24_EP2.1x2.1mm; Datasheet: http://www.ti.com/lit/ds/symlink/msp430fr5732.pdf
pins: 1 TA0.1/DMAE0/RTCCLK/P1.0, 2 TA0.2/TA1CLK/CDOUT/P1.1, 3 TA1.1/TA0CLK/CDOUT/CD2/A2/P1.2, 4 TA1.2/UCB0STE/CD3/A3/P1.3, 5 TB0.1/UCA0STE/CD4/A4/P1.4, 6 TB0.2/UCA0CLK/CD5/A5/P1.5, 7 PJ.0/TDO/TB0OUTH/SMCLK/CD6, 8 PJ.1/TDI/TCLK/MCLK/CD7, 9 PJ.2/TMS/ACLK/CD8, 10 PJ.3/TCK/CD9, 11 TEST/SBWTCK, 12 ~{{RST}/NMI/SBWTDIO}, 13 TB0CLK/UCA0TXD/UCA0SIMO/ACLK/P2.0, 14 TB0.0/UCA0RXD/UCA0SOMI/P2.1, 15 UCB0CLK/P2.2, 16 TA0.0/UCB0SIMO/UCB0SDA/P1.6, 17 TA1.0/UCB0SOMI/UCB0SCL/P1.7, 18 VCORE, 19 DVSS, 20 DVCC, 21 PJ.4/XIN, 22 PJ.5/XOUT, 23 AVSS, 24 AVCC

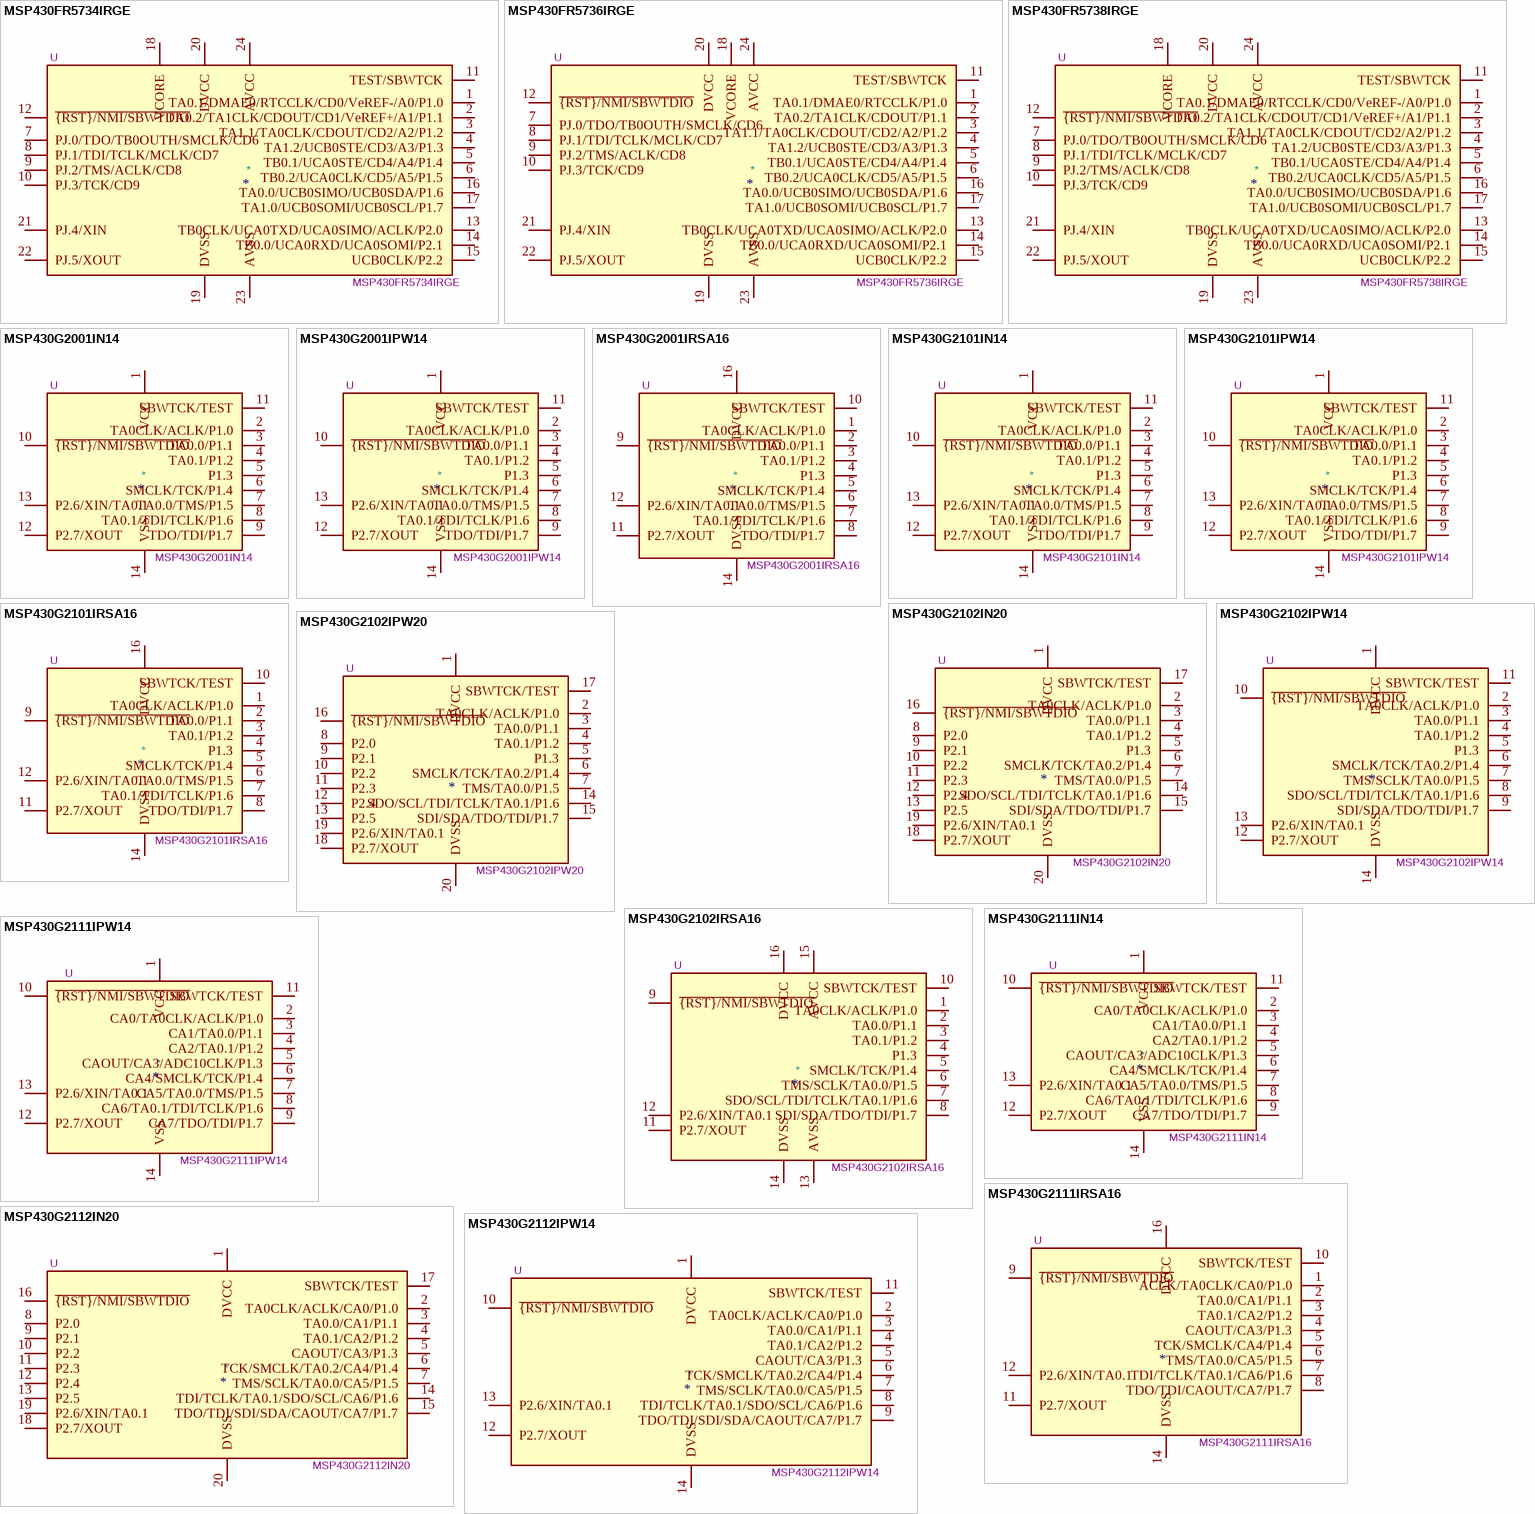
[diagram p21: symbols MSP430FR5734IRGE to MSP430G2112IPW14]

## MSP430FR5734IRGE
designator *  value MSP430FR5734IRGE  Reference: U
ki_keywords: TI MSP430 16-bit mixed signal microcontroller; ki_description: 8kB FRAM, 1kB SRAM, QFN-24; ki_fp_filters: Texas*S?PVQFN*; Footprint: Package_DFN_QFN:Texas_S-PVQFN-N24_EP2.1x2.1mm; Datasheet: http://www.ti.com/lit/ds/symlink/msp430fr5734.pdf
pins: 1 TA0.1/DMAE0/RTCCLK/CD0/VeREF-/A0/P1.0, 2 TA0.2/TA1CLK/CDOUT/CD1/VeREF+/A1/P1.1, 3 TA1.1/TA0CLK/CDOUT/CD2/A2/P1.2, 4 TA1.2/UCB0STE/CD3/A3/P1.3, 5 TB0.1/UCA0STE/CD4/A4/P1.4, 6 TB0.2/UCA0CLK/CD5/A5/P1.5, 7 PJ.0/TDO/TB0OUTH/SMCLK/CD6, 8 PJ.1/TDI/TCLK/MCLK/CD7, 9 PJ.2/TMS/ACLK/CD8, 10 PJ.3/TCK/CD9, 11 TEST/SBWTCK, 12 ~{{RST}/NMI/SBWTDIO}, 13 TB0CLK/UCA0TXD/UCA0SIMO/ACLK/P2.0, 14 TB0.0/UCA0RXD/UCA0SOMI/P2.1, 15 UCB0CLK/P2.2, 16 TA0.0/UCB0SIMO/UCB0SDA/P1.6, 17 TA1.0/UCB0SOMI/UCB0SCL/P1.7, 18 VCORE, 19 DVSS, 20 DVCC, 21 PJ.4/XIN, 22 PJ.5/XOUT, 23 AVSS, 24 AVCC

## MSP430FR5736IRGE
designator *  value MSP430FR5736IRGE  Reference: U
ki_keywords: TI MSP430 16-bit mixed signal microcontroller; ki_description: 16kB FRAM, 1kB SRAM, QFN-24; ki_fp_filters: Texas*S?PVQFN*; Footprint: Package_DFN_QFN:Texas_S-PVQFN-N24_EP2.1x2.1mm; Datasheet: http://www.ti.com/lit/ds/symlink/msp430fr5736.pdf
pins: 1 TA0.1/DMAE0/RTCCLK/P1.0, 2 TA0.2/TA1CLK/CDOUT/P1.1, 3 TA1.1/TA0CLK/CDOUT/CD2/A2/P1.2, 4 TA1.2/UCB0STE/CD3/A3/P1.3, 5 TB0.1/UCA0STE/CD4/A4/P1.4, 6 TB0.2/UCA0CLK/CD5/A5/P1.5, 7 PJ.0/TDO/TB0OUTH/SMCLK/CD6, 8 PJ.1/TDI/TCLK/MCLK/CD7, 9 PJ.2/TMS/ACLK/CD8, 10 PJ.3/TCK/CD9, 11 TEST/SBWTCK, 12 ~{{RST}/NMI/SBWTDIO}, 13 TB0CLK/UCA0TXD/UCA0SIMO/ACLK/P2.0, 14 TB0.0/UCA0RXD/UCA0SOMI/P2.1, 15 UCB0CLK/P2.2, 16 TA0.0/UCB0SIMO/UCB0SDA/P1.6, 17 TA1.0/UCB0SOMI/UCB0SCL/P1.7, 18 VCORE, 19 DVSS, 20 DVCC, 21 PJ.4/XIN, 22 PJ.5/XOUT, 23 AVSS, 24 AVCC

## MSP430FR5738IRGE
designator *  value MSP430FR5738IRGE  Reference: U
ki_keywords: TI MSP430 16-bit mixed signal microcontroller; ki_description: 16kB FRAM, 1kB SRAM, QFN-24; ki_fp_filters: Texas*S?PVQFN*; Footprint: Package_DFN_QFN:Texas_S-PVQFN-N24_EP2.1x2.1mm; Datasheet: http://www.ti.com/lit/ds/symlink/msp430fr5738.pdf
pins: 1 TA0.1/DMAE0/RTCCLK/CD0/VeREF-/A0/P1.0, 2 TA0.2/TA1CLK/CDOUT/CD1/VeREF+/A1/P1.1, 3 TA1.1/TA0CLK/CDOUT/CD2/A2/P1.2, 4 TA1.2/UCB0STE/CD3/A3/P1.3, 5 TB0.1/UCA0STE/CD4/A4/P1.4, 6 TB0.2/UCA0CLK/CD5/A5/P1.5, 7 PJ.0/TDO/TB0OUTH/SMCLK/CD6, 8 PJ.1/TDI/TCLK/MCLK/CD7, 9 PJ.2/TMS/ACLK/CD8, 10 PJ.3/TCK/CD9, 11 TEST/SBWTCK, 12 ~{{RST}/NMI/SBWTDIO}, 13 TB0CLK/UCA0TXD/UCA0SIMO/ACLK/P2.0, 14 TB0.0/UCA0RXD/UCA0SOMI/P2.1, 15 UCB0CLK/P2.2, 16 TA0.0/UCB0SIMO/UCB0SDA/P1.6, 17 TA1.0/UCB0SOMI/UCB0SCL/P1.7, 18 VCORE, 19 DVSS, 20 DVCC, 21 PJ.4/XIN, 22 PJ.5/XOUT, 23 AVSS, 24 AVCC

## MSP430G2001IN14
designator *  value MSP430G2001IN14  Reference: U
ki_keywords: TI MSP430 16-bit mixed signal microcontroller; ki_description: 512B Flash, 128B RAM, DIP-14; ki_fp_filters: DIP*W7.62mm*; Footprint: Package_DIP:DIP-14_W7.62mm; Datasheet: http://www.ti.com/lit/ds/symlink/msp430g2001.pdf
pins: 1 VCC, 2 TA0CLK/ACLK/P1.0, 3 TA0.0/P1.1, 4 TA0.1/P1.2, 5 P1.3, 6 SMCLK/TCK/P1.4, 7 TA0.0/TMS/P1.5, 8 TA0.1/TDI/TCLK/P1.6, 9 TDO/TDI/P1.7, 10 ~{{RST}/NMI/SBWTDIO}, 11 SBWTCK/TEST, 12 P2.7/XOUT, 13 P2.6/XIN/TA0.1, 14 VSS